# Altium schematic symbol library SparkFun-RF.SCHLIB: 105 symbols (part 1 of 2)
Pins are listed as number, name and electrical type; pins without a type are passive.

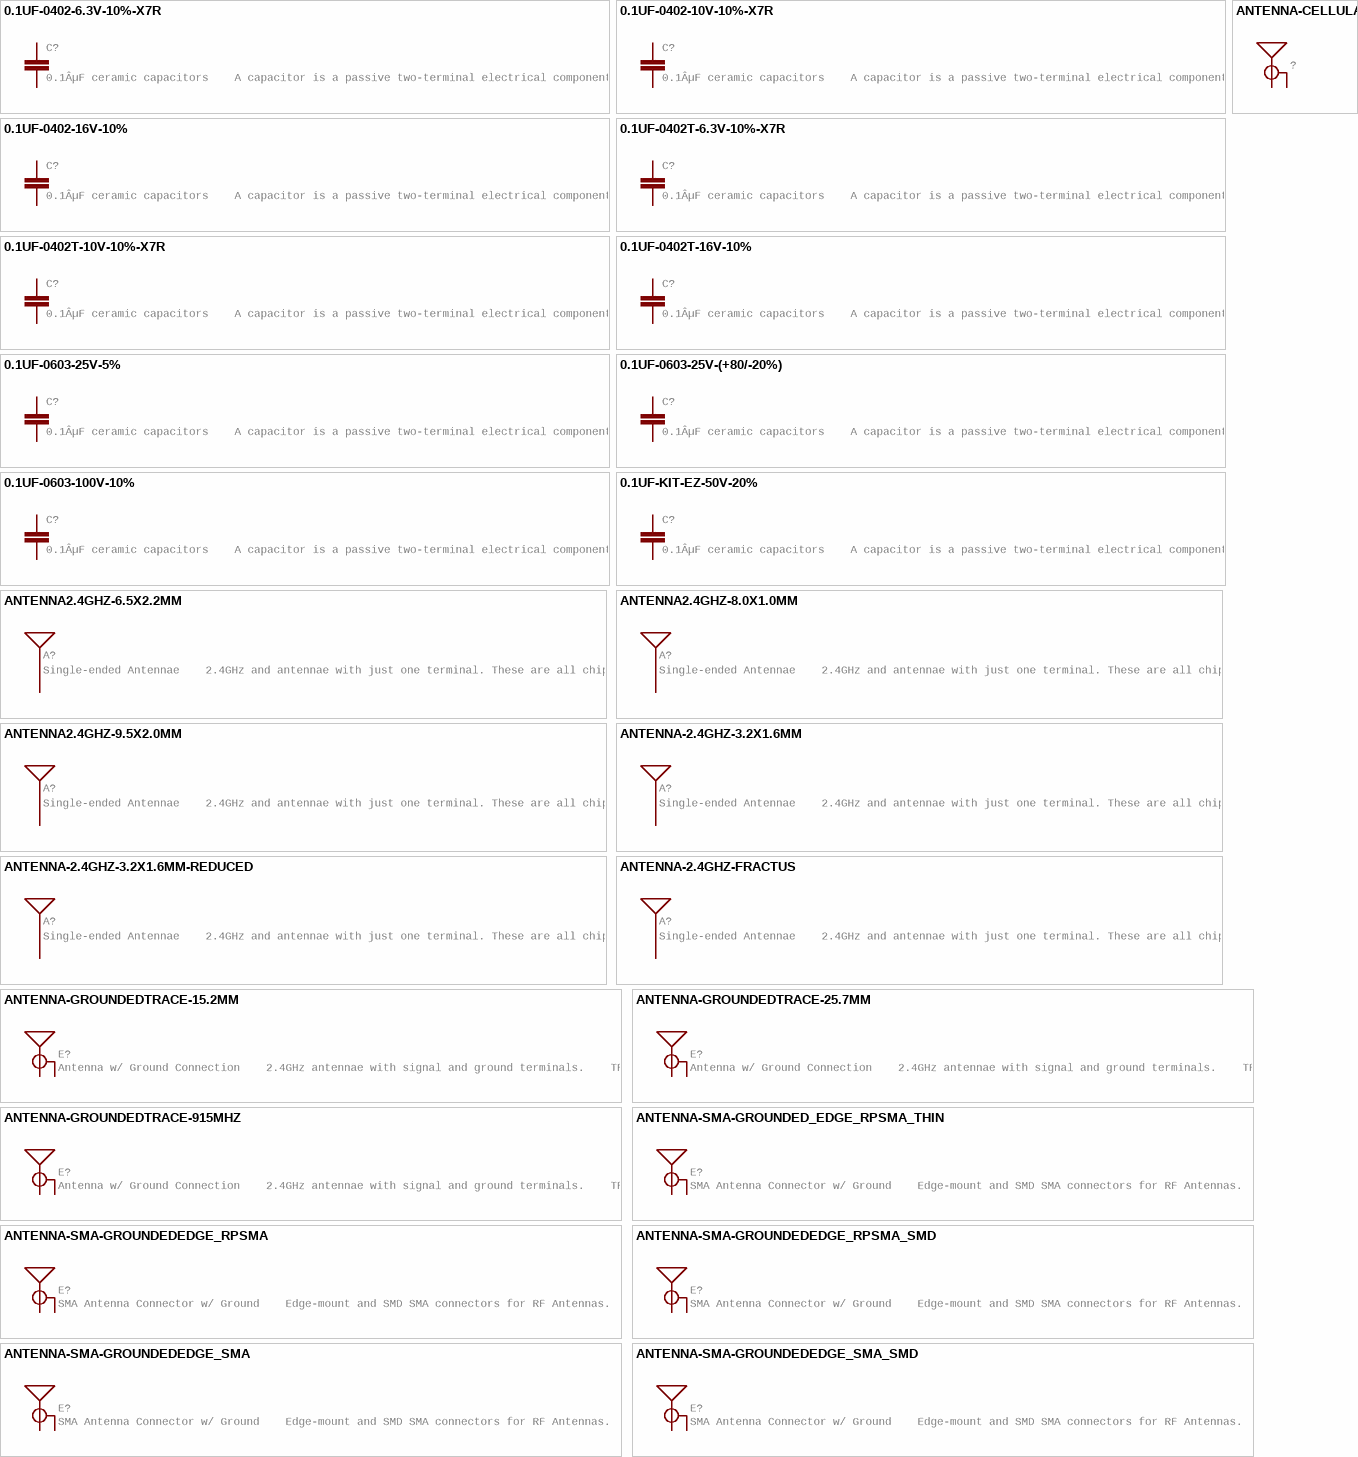
[diagram p0: symbols 0.1UF-0402-6.3V-10%-X7R to ANTENNA-SMA-GROUNDEDEDGE_SMA_SMD]

## 0.1UF-0402-6.3V-10%-X7R
designator C?, comment 0.1ÂµF ceramic capacitors    A capacitor is a passive two-terminal electrical component used to store electrical energy temporarily in an electric field.
GateName_1: G$1; SymbolName_1: CAP; DeviceName: -0402-6.3V-10%-X7R; DeviceSetName: 0.1UF; PROD_ID: CAP-14993; LibraryName: SparkFun-RF; Package: 0402
footprint 0402
pins: 1, 2

## 0.1UF-0402-10V-10%-X7R
designator C?, comment 0.1ÂµF ceramic capacitors    A capacitor is a passive two-terminal electrical component used to store electrical energy temporarily in an electric field.
GateName_1: G$1; SymbolName_1: CAP; DeviceName: -0402-10V-10%-X7R; DeviceSetName: 0.1UF; PROD_ID: CAP-15083; LibraryName: SparkFun-RF; Package: 0402
footprint 0402
pins: 1, 2

## 0.1UF-0402-16V-10%
designator C?, comment 0.1ÂµF ceramic capacitors    A capacitor is a passive two-terminal electrical component used to store electrical energy temporarily in an electric field.
GateName_1: G$1; SymbolName_1: CAP; DeviceName: -0402-16V-10%; DeviceSetName: 0.1UF; PROD_ID: CAP-12416; LibraryName: SparkFun-RF; Package: 0402
footprint 0402
pins: 1, 2

## 0.1UF-0402T-6.3V-10%-X7R
designator C?, comment 0.1ÂµF ceramic capacitors    A capacitor is a passive two-terminal electrical component used to store electrical energy temporarily in an electric field.
GateName_1: G$1; SymbolName_1: CAP; DeviceName: -0402T-6.3V-10%-X7R; DeviceSetName: 0.1UF; PROD_ID: CAP-14993; LibraryName: SparkFun-RF; Package: 0402-TIGHT
footprint 0402-TIGHT
pins: 1, 2

## 0.1UF-0402T-10V-10%-X7R
designator C?, comment 0.1ÂµF ceramic capacitors    A capacitor is a passive two-terminal electrical component used to store electrical energy temporarily in an electric field.
GateName_1: G$1; SymbolName_1: CAP; DeviceName: -0402T-10V-10%-X7R; DeviceSetName: 0.1UF; PROD_ID: CAP-15083; LibraryName: SparkFun-RF; Package: 0402-TIGHT
footprint 0402-TIGHT
pins: 1, 2

## 0.1UF-0402T-16V-10%
designator C?, comment 0.1ÂµF ceramic capacitors    A capacitor is a passive two-terminal electrical component used to store electrical energy temporarily in an electric field.
GateName_1: G$1; SymbolName_1: CAP; DeviceName: -0402T-16V-10%; DeviceSetName: 0.1UF; PROD_ID: CAP-12416; LibraryName: SparkFun-RF; Package: 0402-TIGHT
footprint 0402-TIGHT
pins: 1, 2

## 0.1UF-0603-25V-5%
designator C?, comment 0.1ÂµF ceramic capacitors    A capacitor is a passive two-terminal electrical component used to store electrical energy temporarily in an electric field.
GateName_1: G$1; SymbolName_1: CAP; DeviceName: -0603-25V-5%; DeviceSetName: 0.1UF; PROD_ID: CAP-08604; LibraryName: SparkFun-RF; Package: 0603
footprint 0603
pins: 1, 2

## 0.1UF-0603-25V-(+80/-20%)
designator C?, comment 0.1ÂµF ceramic capacitors    A capacitor is a passive two-terminal electrical component used to store electrical energy temporarily in an electric field.
GateName_1: G$1; SymbolName_1: CAP; DeviceName: -0603-25V-(+80/-20%); DeviceSetName: 0.1UF; PROD_ID: CAP-00810; LibraryName: SparkFun-RF; Package: 0603
footprint 0603
pins: 1, 2

## 0.1UF-0603-100V-10%
designator C?, comment 0.1ÂµF ceramic capacitors    A capacitor is a passive two-terminal electrical component used to store electrical energy temporarily in an electric field.
GateName_1: G$1; SymbolName_1: CAP; DeviceName: -0603-100V-10%; DeviceSetName: 0.1UF; PROD_ID: CAP-08390; LibraryName: SparkFun-RF; Package: 0603
footprint 0603
pins: 1, 2

## 0.1UF-KIT-EZ-50V-20%
designator C?, comment 0.1ÂµF ceramic capacitors    A capacitor is a passive two-terminal electrical component used to store electrical energy temporarily in an electric field.
GateName_1: G$1; SymbolName_1: CAP; DeviceName: -KIT-EZ-50V-20%; DeviceSetName: 0.1UF; PROD_ID: CAP-08370; LibraryName: SparkFun-RF; Package: CAP-PTH-SMALL-KIT
footprint CAP-PTH-SMALL-KIT
pins: 1, 2

## ANTENNA2.4GHZ-6.5X2.2MM
designator A?, comment Single-ended Antennae    2.4GHz and antennae with just one terminal. These are all chip antennae.   2.4GHz (WiFi/BT/ZigBee) Antennae ANT-2.4GHZ-6.5X2.2MM - 6.5 x 2.2 mm chip antenna. (SparkFun Product)  ANT-2.4GHZ8.0X1.0MM -  8.0 x 1.0 mm chip antenna. (Datasheet)  ANT-2.4GHZ9.5X2.0MM - 9.5 x 2.0 mm chip antenna. (SparkFun Product)
GateName_1: G$1; PROD_ID: ANT-08187; SF_ID: WRL-00144; SymbolName_1: ANTENNA; DeviceName: 2.4GHZ-6.5X2.2MM; LibraryName: SparkFun-RF; DeviceSetName: ANTENNA; Package: ANT-2.4GHZ-6.5X2.2MM
footprint ANT-2.4GHZ-6.5X2.2MM
pins: FEED SIGNAL (io)

## ANTENNA2.4GHZ-8.0X1.0MM
designator A?, comment Single-ended Antennae    2.4GHz and antennae with just one terminal. These are all chip antennae.   2.4GHz (WiFi/BT/ZigBee) Antennae ANT-2.4GHZ-6.5X2.2MM - 6.5 x 2.2 mm chip antenna. (SparkFun Product)  ANT-2.4GHZ8.0X1.0MM -  8.0 x 1.0 mm chip antenna. (Datasheet)  ANT-2.4GHZ9.5X2.0MM - 9.5 x 2.0 mm chip antenna. (SparkFun Product)
GateName_1: G$1; DeviceName: 2.4GHZ-8.0X1.0MM; PROD_ID: ANT-14377; SymbolName_1: ANTENNA; LibraryName: SparkFun-RF; DeviceSetName: ANTENNA; Package: ANT-2.4GHZ-8.0X1.0MM
footprint ANT-2.4GHZ-8.0X1.0MM
pins: FEED SIGNAL (io)

## ANTENNA2.4GHZ-9.5X2.0MM
designator A?, comment Single-ended Antennae    2.4GHz and antennae with just one terminal. These are all chip antennae.   2.4GHz (WiFi/BT/ZigBee) Antennae ANT-2.4GHZ-6.5X2.2MM - 6.5 x 2.2 mm chip antenna. (SparkFun Product)  ANT-2.4GHZ8.0X1.0MM -  8.0 x 1.0 mm chip antenna. (Datasheet)  ANT-2.4GHZ9.5X2.0MM - 9.5 x 2.0 mm chip antenna. (SparkFun Product)
GateName_1: G$1; DeviceName: 2.4GHZ-9.5X2.0MM; PROD_ID: ANT-09067; SF_ID: WRL-09025; SymbolName_1: ANTENNA; LibraryName: SparkFun-RF; DeviceSetName: ANTENNA; Package: ANT-2.4GHZ-9.5X2.0MM
footprint ANT-2.4GHZ-9.5X2.0MM
pins: FEED SIGNAL (io)

## ANTENNA-2.4GHZ-3.2X1.6MM
designator A?, comment Single-ended Antennae    2.4GHz and antennae with just one terminal. These are all chip antennae.   2.4GHz (WiFi/BT/ZigBee) Antennae ANT-2.4GHZ-6.5X2.2MM - 6.5 x 2.2 mm chip antenna. (SparkFun Product)  ANT-2.4GHZ8.0X1.0MM -  8.0 x 1.0 mm chip antenna. (Datasheet)  ANT-2.4GHZ9.5X2.0MM - 9.5 x 2.0 mm chip antenna. (SparkFun Product)
GateName_1: G$1; DeviceName: -2.4GHZ-3.2X1.6MM; PROD_ID: ANT-14235; SymbolName_1: ANTENNA; LibraryName: SparkFun-RF; DeviceSetName: ANTENNA; Package: ANT-2.4GHZ-3.2X1.6X1.2MM
footprint ANT-2.4GHZ-3.2X1.6X1.2MM
pins: FEED SIGNAL (io)

## ANTENNA-2.4GHZ-3.2X1.6MM-REDUCED
designator A?, comment Single-ended Antennae    2.4GHz and antennae with just one terminal. These are all chip antennae.   2.4GHz (WiFi/BT/ZigBee) Antennae ANT-2.4GHZ-6.5X2.2MM - 6.5 x 2.2 mm chip antenna. (SparkFun Product)  ANT-2.4GHZ8.0X1.0MM -  8.0 x 1.0 mm chip antenna. (Datasheet)  ANT-2.4GHZ9.5X2.0MM - 9.5 x 2.0 mm chip antenna. (SparkFun Product)
GateName_1: G$1; DeviceName: -2.4GHZ-3.2X1.6MM-REDUCED; PROD_ID: ANT-14235; SymbolName_1: ANTENNA; LibraryName: SparkFun-RF; DeviceSetName: ANTENNA; Package: ANT-2.4GHZ-3.2X1.6X1.2MM-REDUCED_KEEPOUT
footprint ANT-2.4GHZ-3.2X1.6X1.2MM-REDUCED_KEEPOUT
pins: FEED SIGNAL (io)

## ANTENNA-2.4GHZ-FRACTUS
designator A?, comment Single-ended Antennae    2.4GHz and antennae with just one terminal. These are all chip antennae.   2.4GHz (WiFi/BT/ZigBee) Antennae ANT-2.4GHZ-6.5X2.2MM - 6.5 x 2.2 mm chip antenna. (SparkFun Product)  ANT-2.4GHZ8.0X1.0MM -  8.0 x 1.0 mm chip antenna. (Datasheet)  ANT-2.4GHZ9.5X2.0MM - 9.5 x 2.0 mm chip antenna. (SparkFun Product)
GateName_1: G$1; DeviceName: -2.4GHZ-FRACTUS; SymbolName_1: ANTENNA; LibraryName: SparkFun-RF; DeviceSetName: ANTENNA; Package: ANT-2.4GHZ-7.0X3.0MM-FRACTUS
footprint ANT-2.4GHZ-7.0X3.0MM-FRACTUS
pins: FEED SIGNAL (io)

## ANTENNA-CELLULAR
designator ?
GateName_1: G$1; SymbolName_1: ANTENNA-GROUNDED; DeviceSetName: ANTENNA-CELLULAR; PROD_ID: ANT-14096; LibraryName: SparkFun-RF; Package: MOLEX_146200
footprint MOLEX_146200
pins: FEED SIGNAL (io), GND (io)

## ANTENNA-GROUNDEDTRACE-15.2MM
designator E?, comment Antenna w/ Ground Connection    2.4GHz antennae with signal and ground terminals.    TRACE_ANTENNA_2.4GHZ_15.2MM - Meander Trace antenna  15.2 x 5.7mm footprint  Based on layout from TI app note AN043.      TRACE_ANTENNA_2.4GHZ_25.7MM - Inverted F trace antenna  25.7 x 7.5 mm footprint.  Based on layout from TI design note DN0007.
GateName_1: G$1; SymbolName_1: ANTENNA-GROUNDED; DeviceName: TRACE-15.2MM; LibraryName: SparkFun-RF; DeviceSetName: ANTENNA-GROUNDED; Package: TRACE_ANTENNA_2.4GHZ_15.2MM
footprint TRACE_ANTENNA_2.4GHZ_15.2MM
pins: ANT SIGNAL (io), GND (io)

## ANTENNA-GROUNDEDTRACE-25.7MM
designator E?, comment Antenna w/ Ground Connection    2.4GHz antennae with signal and ground terminals.    TRACE_ANTENNA_2.4GHZ_15.2MM - Meander Trace antenna  15.2 x 5.7mm footprint  Based on layout from TI app note AN043.      TRACE_ANTENNA_2.4GHZ_25.7MM - Inverted F trace antenna  25.7 x 7.5 mm footprint.  Based on layout from TI design note DN0007.
GateName_1: G$1; SymbolName_1: ANTENNA-GROUNDED; DeviceName: TRACE-25.7MM; LibraryName: SparkFun-RF; DeviceSetName: ANTENNA-GROUNDED; Package: TRACE_ANTENNA_2.4GHZ_25.7MM
footprint TRACE_ANTENNA_2.4GHZ_25.7MM
pins: ANT SIGNAL (io), GND,GND2 GND (io)

## ANTENNA-GROUNDEDTRACE-915MHZ
designator E?, comment Antenna w/ Ground Connection    2.4GHz antennae with signal and ground terminals.    TRACE_ANTENNA_2.4GHZ_15.2MM - Meander Trace antenna  15.2 x 5.7mm footprint  Based on layout from TI app note AN043.      TRACE_ANTENNA_2.4GHZ_25.7MM - Inverted F trace antenna  25.7 x 7.5 mm footprint.  Based on layout from TI design note DN0007.
GateName_1: G$1; SymbolName_1: ANTENNA-GROUNDED; DeviceName: TRACE-915MHZ; LibraryName: SparkFun-RF; DeviceSetName: ANTENNA-GROUNDED; Package: TRACE_ANTENNA_915MHZ_THINGMAGIC
footprint TRACE_ANTENNA_915MHZ_THINGMAGIC
pins: ANT SIGNAL (io), GND@1-3 GND (io)

## ANTENNA-SMA-GROUNDED_EDGE_RPSMA_THIN
designator E?, comment SMA Antenna Connector w/ Ground    Edge-mount and SMD SMA connectors for RF Antennas.    **4-LAYER BOARD WARNING!!**    When designing a 4-layer board using any of the SMD variants, you will need to manually add a cutout polygon on any internal power layers to make sure that you don't end up with exposed copper around the edge of the routed hole for these connectors. Exposed power copper could then short to the connector body - and that would be bad.    Why hasn't anyone added the cutout polygons directly to the connector footprint? Well, your internal layers (usually 2 and 15) may be covered with GND polygons and you might well want the copper to go all the way to the edge, especially under the connector SIGNAL pin. So adding cutouts to the footprint might make matters worse, not better...
GateName_1: G$1; SymbolName_1: ANTENNA-GROUNDED; DeviceName: _EDGE_RPSMA_THIN; DeviceSetName: ANTENNA-SMA-GROUNDED; PROD_ID: CONN-16309; LibraryName: SparkFun-RF; Package: RP-SMA-EDGE
footprint RP-SMA-EDGE
pins: GND@0,GND@1,GND@2,GND@3 GND (io), SIG SIGNAL (io)

## ANTENNA-SMA-GROUNDEDEDGE_RPSMA
designator E?, comment SMA Antenna Connector w/ Ground    Edge-mount and SMD SMA connectors for RF Antennas.    **4-LAYER BOARD WARNING!!**    When designing a 4-layer board using any of the SMD variants, you will need to manually add a cutout polygon on any internal power layers to make sure that you don't end up with exposed copper around the edge of the routed hole for these connectors. Exposed power copper could then short to the connector body - and that would be bad.    Why hasn't anyone added the cutout polygons directly to the connector footprint? Well, your internal layers (usually 2 and 15) may be covered with GND polygons and you might well want the copper to go all the way to the edge, especially under the connector SIGNAL pin. So adding cutouts to the footprint might make matters worse, not better...
GateName_1: G$1; SymbolName_1: ANTENNA-GROUNDED; DeviceName: EDGE_RPSMA; DeviceSetName: ANTENNA-SMA-GROUNDED; PROD_ID: CONN-00827; LibraryName: SparkFun-RF; Package: RP-SMA-EDGE
footprint RP-SMA-EDGE
pins: GND@0,GND@1,GND@2,GND@3 GND (io), SIG SIGNAL (io)

## ANTENNA-SMA-GROUNDEDEDGE_RPSMA_SMD
designator E?, comment SMA Antenna Connector w/ Ground    Edge-mount and SMD SMA connectors for RF Antennas.    **4-LAYER BOARD WARNING!!**    When designing a 4-layer board using any of the SMD variants, you will need to manually add a cutout polygon on any internal power layers to make sure that you don't end up with exposed copper around the edge of the routed hole for these connectors. Exposed power copper could then short to the connector body - and that would be bad.    Why hasn't anyone added the cutout polygons directly to the connector footprint? Well, your internal layers (usually 2 and 15) may be covered with GND polygons and you might well want the copper to go all the way to the edge, especially under the connector SIGNAL pin. So adding cutouts to the footprint might make matters worse, not better...
GateName_1: G$1; SymbolName_1: ANTENNA-GROUNDED; DeviceName: EDGE_RPSMA_SMD; DeviceSetName: ANTENNA-SMA-GROUNDED; PROD_ID: CONN-15101; LibraryName: SparkFun-RF; Package: RP-SMA-EDGE-SMD
footprint RP-SMA-EDGE-SMD
pins: GND@0,GND@1 GND (io), SIG SIGNAL (io)

## ANTENNA-SMA-GROUNDEDEDGE_SMA
designator E?, comment SMA Antenna Connector w/ Ground    Edge-mount and SMD SMA connectors for RF Antennas.    **4-LAYER BOARD WARNING!!**    When designing a 4-layer board using any of the SMD variants, you will need to manually add a cutout polygon on any internal power layers to make sure that you don't end up with exposed copper around the edge of the routed hole for these connectors. Exposed power copper could then short to the connector body - and that would be bad.    Why hasn't anyone added the cutout polygons directly to the connector footprint? Well, your internal layers (usually 2 and 15) may be covered with GND polygons and you might well want the copper to go all the way to the edge, especially under the connector SIGNAL pin. So adding cutouts to the footprint might make matters worse, not better...
GateName_1: G$1; SymbolName_1: ANTENNA-GROUNDED; DeviceName: EDGE_SMA; DeviceSetName: ANTENNA-SMA-GROUNDED; PROD_ID: CONN-08289; LibraryName: SparkFun-RF; Package: SMA-EDGE
footprint SMA-EDGE
pins: GND@0,GND@1,GND@2,GND@3 GND (io), SIG SIGNAL (io)

## ANTENNA-SMA-GROUNDEDEDGE_SMA_SMD
designator E?, comment SMA Antenna Connector w/ Ground    Edge-mount and SMD SMA connectors for RF Antennas.    **4-LAYER BOARD WARNING!!**    When designing a 4-layer board using any of the SMD variants, you will need to manually add a cutout polygon on any internal power layers to make sure that you don't end up with exposed copper around the edge of the routed hole for these connectors. Exposed power copper could then short to the connector body - and that would be bad.    Why hasn't anyone added the cutout polygons directly to the connector footprint? Well, your internal layers (usually 2 and 15) may be covered with GND polygons and you might well want the copper to go all the way to the edge, especially under the connector SIGNAL pin. So adding cutouts to the footprint might make matters worse, not better...
GateName_1: G$1; SymbolName_1: ANTENNA-GROUNDED; DeviceName: EDGE_SMA_SMD; DeviceSetName: ANTENNA-SMA-GROUNDED; PROD_ID: CONN-15100; LibraryName: SparkFun-RF; Package: SMA-EDGE-SMD
footprint SMA-EDGE-SMD
pins: GND@0,GND@1 GND (io), SIG SIGNAL (io)

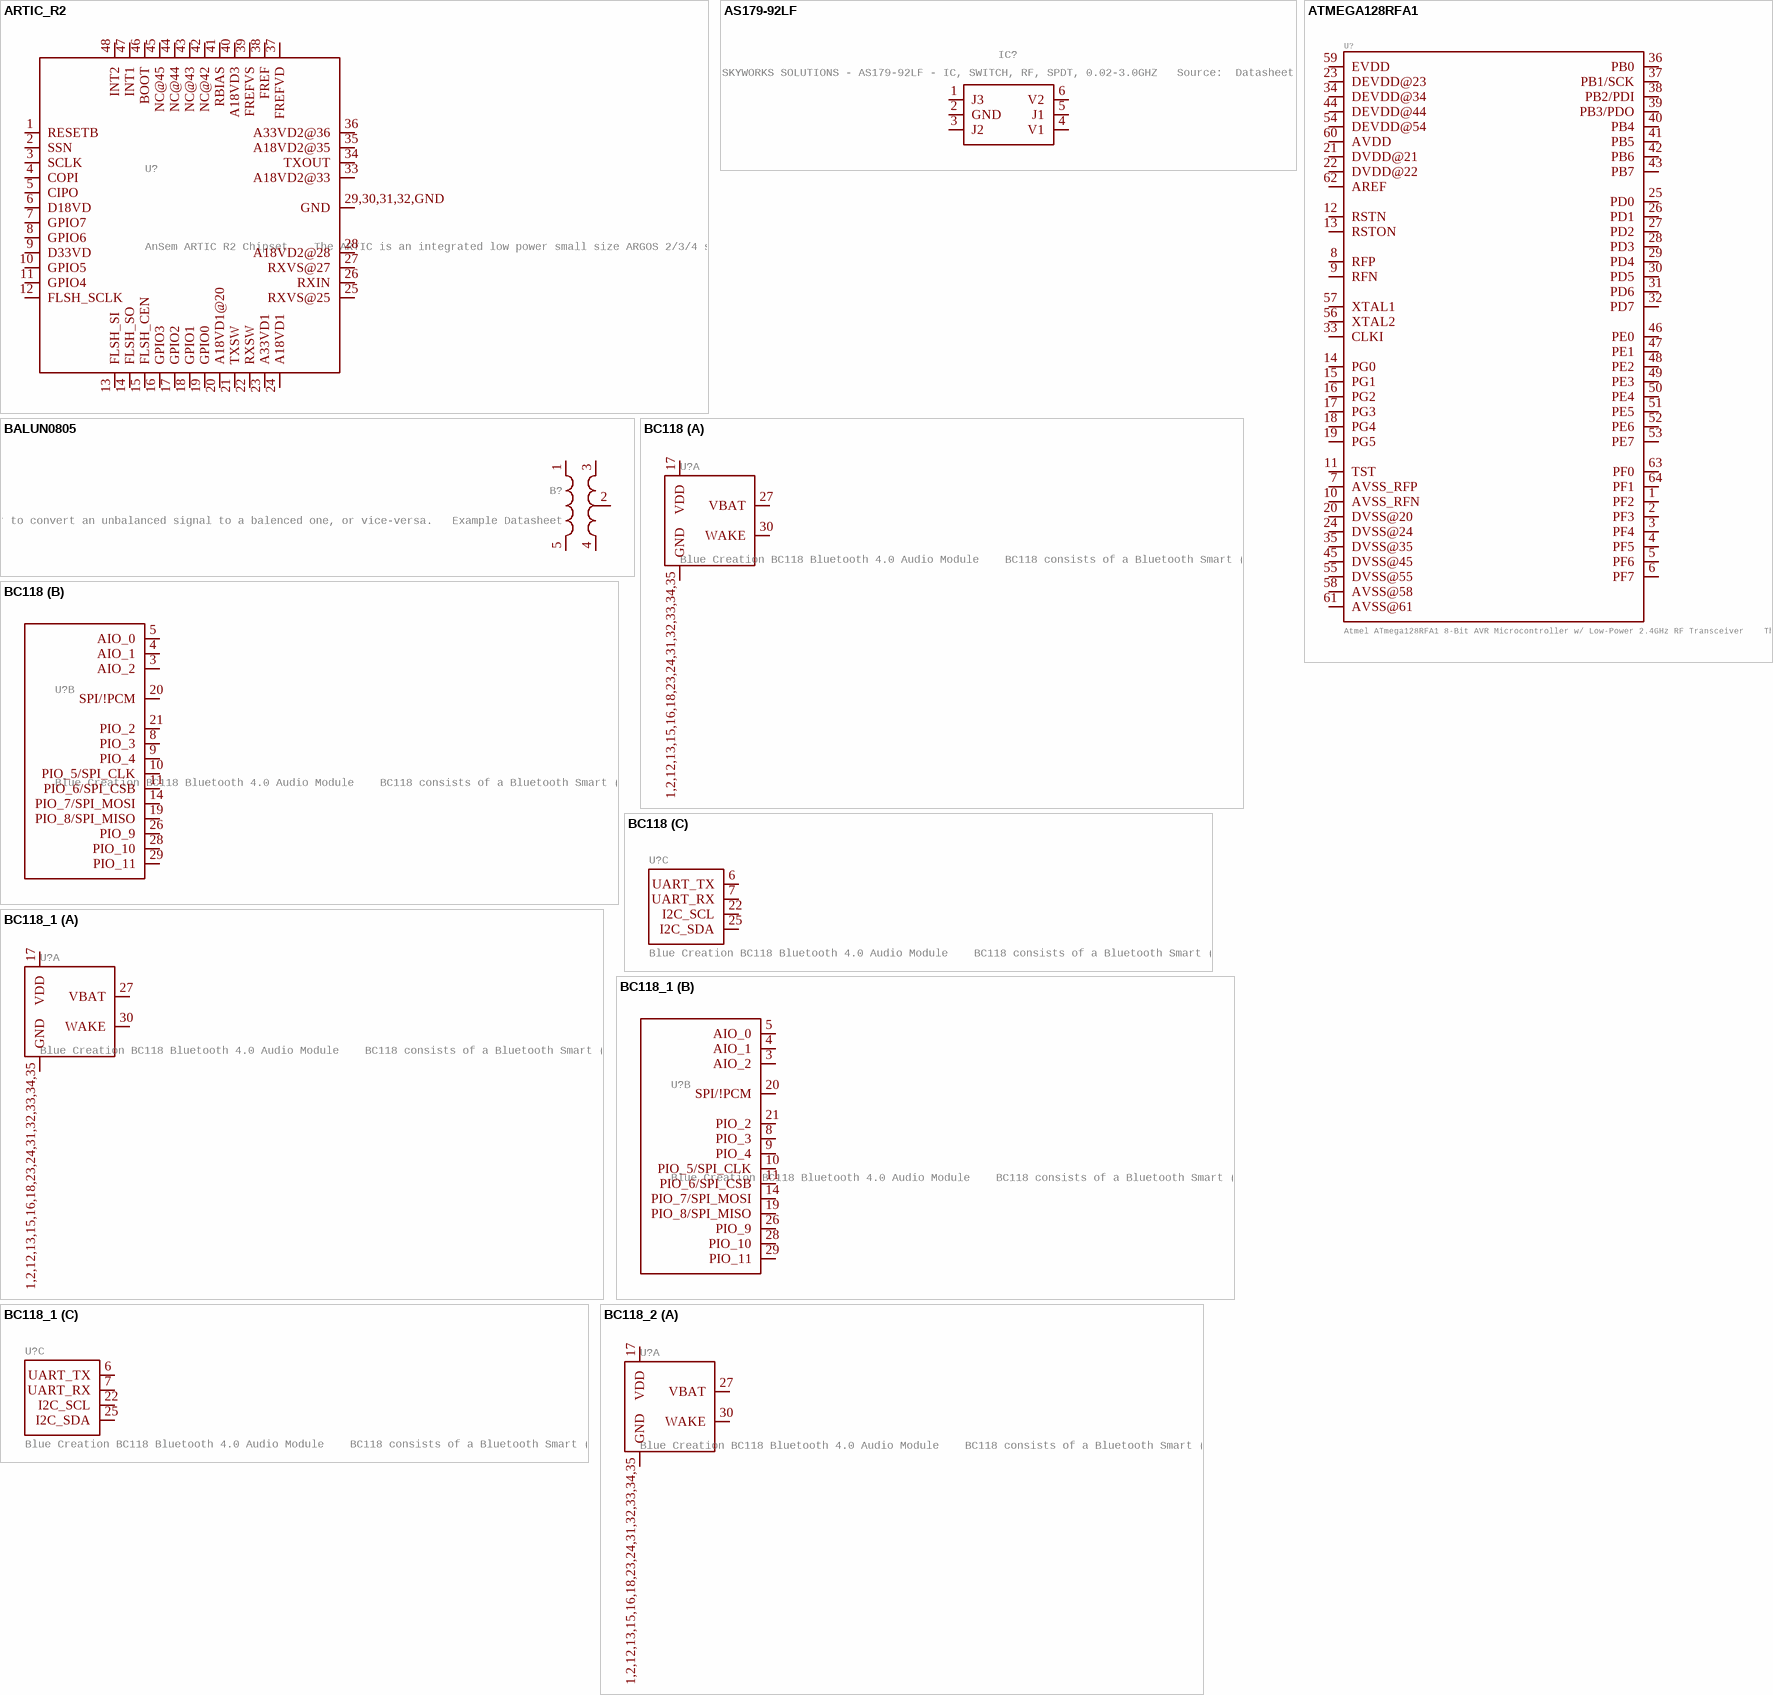
[diagram p1: symbols ARTIC_R2 to BC118_2]

## ARTIC_R2
designator U?, comment AnSem ARTIC R2 Chipset    The ARTIC is an integrated low power small size ARGOS 2/3/4 single chip radio. ARTIC implements a message based wireless interface. For satellite uplink communication, ARTIC will encode, modulate and transmit provided user messages. For downlink communication, ARTIC will lock to the downstream, demodulate and decode and extract the satellite messages.   The ARTIC can transmit signals in frequency bands around 400MHz and receive signals in the bands around 466MHz, in accordance with the ARGOS satellite system specifications.   The ARTIC is compliant and certified for all ARGOS 2 and ARGOS 3 TX standards. It contains a RF transceiver, afrequency synthesizer and a digital baseband modem. The ARTIC contains an on-chip power amplifier delivering 1mW [0dBm] output power, that serves as an output for connecting an external high efficient PA. The (de)modulation algorithms run on an on-chip DSP. This software approach allows for retargeting the ARTIC for other applications. The DSP program can be retained on an external flash or the MCU.
GateName_1: G$1; SymbolName_1: ARTIC_R2; PROD_ID: IC-15312; LibraryName: SparkFun-RF; DeviceSetName: ARTIC_R2; Package: QFN-48
footprint QFN-48
pins: 1 RESETB (io), 2 SSN (io), 3 SCLK (io), 4 COPI (io), 5 CIPO (io), 6 D18VD (power), 7 GPIO7 (io), 8 GPIO6 (io), 9 D33VD (power), 10 GPIO5 (io), 11 GPIO4 (io), 12 FLSH_SCLK (io), 13 FLSH_SI (io), 14 FLSH_SO (io), 15 FLSH_CEN (io), 16 GPIO3 (io), 17 GPIO2 (io), 18 GPIO1 (io), 19 GPIO0 (io), 20 A18VD1@20 (power), 21 TXSW (io), 22 RXSW (io), 23 A33VD1 (power), 24 A18VD1 (power), 25 RXVS@25 (io), 26 RXIN (io), 27 RXVS@27 (io), 28 A18VD2@28 (power), 29,30,31,32,GND GND (io), 33 A18VD2@33 (power), 34 TXOUT (io), 35 A18VD2@35 (power), 36 A33VD2@36 (power), 37 FREFVD (io), 38 FREF (io), 39 FREFVS (io), 40 A18VD3 (power), 41 RBIAS (io), 42 NC@42, 43 NC@43, 44 NC@44, 45 NC@45, 46 BOOT (io), 47 INT1 (io), 48 INT2 (io)

## AS179-92LF
designator IC?, comment SKYWORKS SOLUTIONS - AS179-92LF - IC, SWITCH, RF, SPDT, 0.02-3.0GHZ   Source:  Datasheet
GateName_1: G$1; PROD_ID: IC-15047; SymbolName_1: AS179-92LF; LibraryName: SparkFun-RF; DeviceSetName: AS179-92LF; Package: SOT65P220X100-6N
footprint SOT65P220X100-6N
pins: 1 J3 (io), 2 GND (power), 3 J2 (io), 4 V1 (power), 5 J1 (io), 6 V2 (power)

## ATMEGA128RFA1
designator U?, comment Atmel ATmega128RFA1 8-Bit AVR Microcontroller w/ Low-Power 2.4GHz RF Transceiver    The  ATmega128RFA1  is  a  low-power  CMOS  8-bit  microcontroller  based  on  the  AVR enhanced RISC architecture combined with a high data rate transceiver for the 2.4 GHz ISM band. By   executing   powerful   instructions   in   a   single   clock   cycle,   the   device   achieves  throughputs  approaching  1  MIPS  per  MHz  allowing  the  system  designer  to  optimize power consumption versus processing speed. The  radio  transceiver  provides  high  data  rates  from  250 kb/s  up  to  2 Mb/s,  frame handling,  outstanding receiver  sensitivity  and  high transmit  output  power  enabling  a very robust wireless communication.    Datasheet   SparkFun ATmega128RFA1 Development Board
GateName_1: G$1; PROD_ID: IC-09639; SymbolName_1: ATMEGA128RFA1; LibraryName: SparkFun-RF; DeviceSetName: ATMEGA128RFA1; Package: QFN-64-9X9MM
footprint QFN-64-9X9MM
pins: 1 PF2 (io), 2 PF3 (io), 3 PF4 (io), 4 PF5 (io), 5 PF6 (io), 6 PF7 (io), 7 AVSS_RFP (io), 8 RFP (io), 9 RFN (io), 10 AVSS_RFN (io), 11 TST (io), 12 RSTN (io), 13 RSTON (io), 14 PG0 (io), 15 PG1 (io), 16 PG2 (io), 17 PG3 (io), 18 PG4 (io), 19 PG5 (io), 20 DVSS@20 (io), 21 DVDD@21 (io), 22 DVDD@22 (io), 23 DEVDD@23 (io), 24 DVSS@24 (io), 25 PD0 (io), 26 PD1 (io), 27 PD2 (io), 28 PD3 (io), 29 PD4 (io), 30 PD5 (io), 31 PD6 (io), 32 PD7 (io), 33 CLKI (io), 34 DEVDD@34 (io), 35 DVSS@35 (io), 36 PB0 (io), 37 PB1/SCK (io), 38 PB2/PDI (io), 39 PB3/PDO (io), 40 PB4 (io), 41 PB5 (io), 42 PB6 (io), 43 PB7 (io), 44 DEVDD@44 (io), 45 DVSS@45 (io), 46 PE0 (io), 47 PE1 (io), 48 PE2 (io), 49 PE3 (io), 50 PE4 (io), 51 PE5 (io), 52 PE6 (io), 53 PE7 (io), 54 DEVDD@54 (io), 55 DVSS@55 (io), 56 XTAL2 (io), 57 XTAL1 (io), 58 AVSS@58 (io), 59 EVDD (io), 60 AVDD (io), 61 AVSS@61 (io), 62 AREF (io), 63 PF0 (io), 64 PF1 (io)

## BALUN0805
designator B?, comment Balun    Transformer to convert an unbalanced signal to a balenced one, or vice-versa.   Example Datasheet
GateName_1: G$1; DeviceName: 0805; PROD_ID: COMP-09637; SymbolName_1: BALUN; LibraryName: SparkFun-RF; DeviceSetName: BALUN; Package: BALUN-0805
footprint BALUN-0805
pins: 1 IN (io), 2 GND@2 (io), 3 OUT1 (io), 4 OUT2 (io), 5 GND@5 (io)

## BC118
designator U?, comment Blue Creation BC118 Bluetooth 4.0 Audio Module    BC118 consists of a Bluetooth Smart (Bluetooth 4.0) radio, a microprocessor running an embedded protocol stack. The module is controlled by high level UART instructions or GPIOs. B118 supports UART and I2C Transparent mode for cable replacement, standard/custom profiles, central and peripheral modes. It can connect to any Android, iOS or Windows Mobile Smartphone that is Bluetooth smart capable. The firmware can be upgraded using an App provided by BlueCreation. BC118 can run standalone, with a host processor or controlled by an App.   Datasheet   SparkFun Products:  BLE Mate 2 (WRL-13019)
GateName_1: G1; SymbolName_1: BC118_POWER; GateName_2: G2; SymbolName_2: BC118_PIO; GateName_3: G3; SymbolName_3: BC118_COMMS; PROD_ID: WRL-12203; LibraryName: SparkFun-RF; DeviceSetName: BC118; Package: BC118
footprint BC118
part A pins: 1,2,12,13,15,16,18,23,24,31,32,33,34,35 GND (io), 17 VDD (io), 27 VBAT (io), 30 WAKE (io)
part B pins: 3 AIO_2 (io), 4 AIO_1 (io), 5 AIO_0 (io), 8 PIO_3 (io), 9 PIO_4 (io), 10 PIO_5/SPI_CLK (io), 11 PIO_6/SPI_CSB (io), 14 PIO_7/SPI_MOSI (io), 19 PIO_8/SPI_MISO (io), 20 SPI/!PCM (io), 21 PIO_2 (io), 26 PIO_9 (io), 28 PIO_10 (io), 29 PIO_11 (io)
part C pins: 6 UART_TX (io), 7 UART_RX (io), 22 I2C_SCL (io), 25 I2C_SDA (io)

## BC118_1
designator U?, comment Blue Creation BC118 Bluetooth 4.0 Audio Module    BC118 consists of a Bluetooth Smart (Bluetooth 4.0) radio, a microprocessor running an embedded protocol stack. The module is controlled by high level UART instructions or GPIOs. B118 supports UART and I2C Transparent mode for cable replacement, standard/custom profiles, central and peripheral modes. It can connect to any Android, iOS or Windows Mobile Smartphone that is Bluetooth smart capable. The firmware can be upgraded using an App provided by BlueCreation. BC118 can run standalone, with a host processor or controlled by an App.   Datasheet   SparkFun Products:  BLE Mate 2 (WRL-13019)
GateName_1: G1; SymbolName_1: BC118_POWER; GateName_2: G2; SymbolName_2: BC118_PIO; GateName_3: G3; SymbolName_3: BC118_COMMS; PROD_ID: WRL-12203; LibraryName: SparkFun-RF; DeviceSetName: BC118; Package: BC118
footprint BC118
part A pins: 1,2,12,13,15,16,18,23,24,31,32,33,34,35 GND (io), 17 VDD (io), 27 VBAT (io), 30 WAKE (io)
part B pins: 3 AIO_2 (io), 4 AIO_1 (io), 5 AIO_0 (io), 8 PIO_3 (io), 9 PIO_4 (io), 10 PIO_5/SPI_CLK (io), 11 PIO_6/SPI_CSB (io), 14 PIO_7/SPI_MOSI (io), 19 PIO_8/SPI_MISO (io), 20 SPI/!PCM (io), 21 PIO_2 (io), 26 PIO_9 (io), 28 PIO_10 (io), 29 PIO_11 (io)
part C pins: 6 UART_TX (io), 7 UART_RX (io), 22 I2C_SCL (io), 25 I2C_SDA (io)

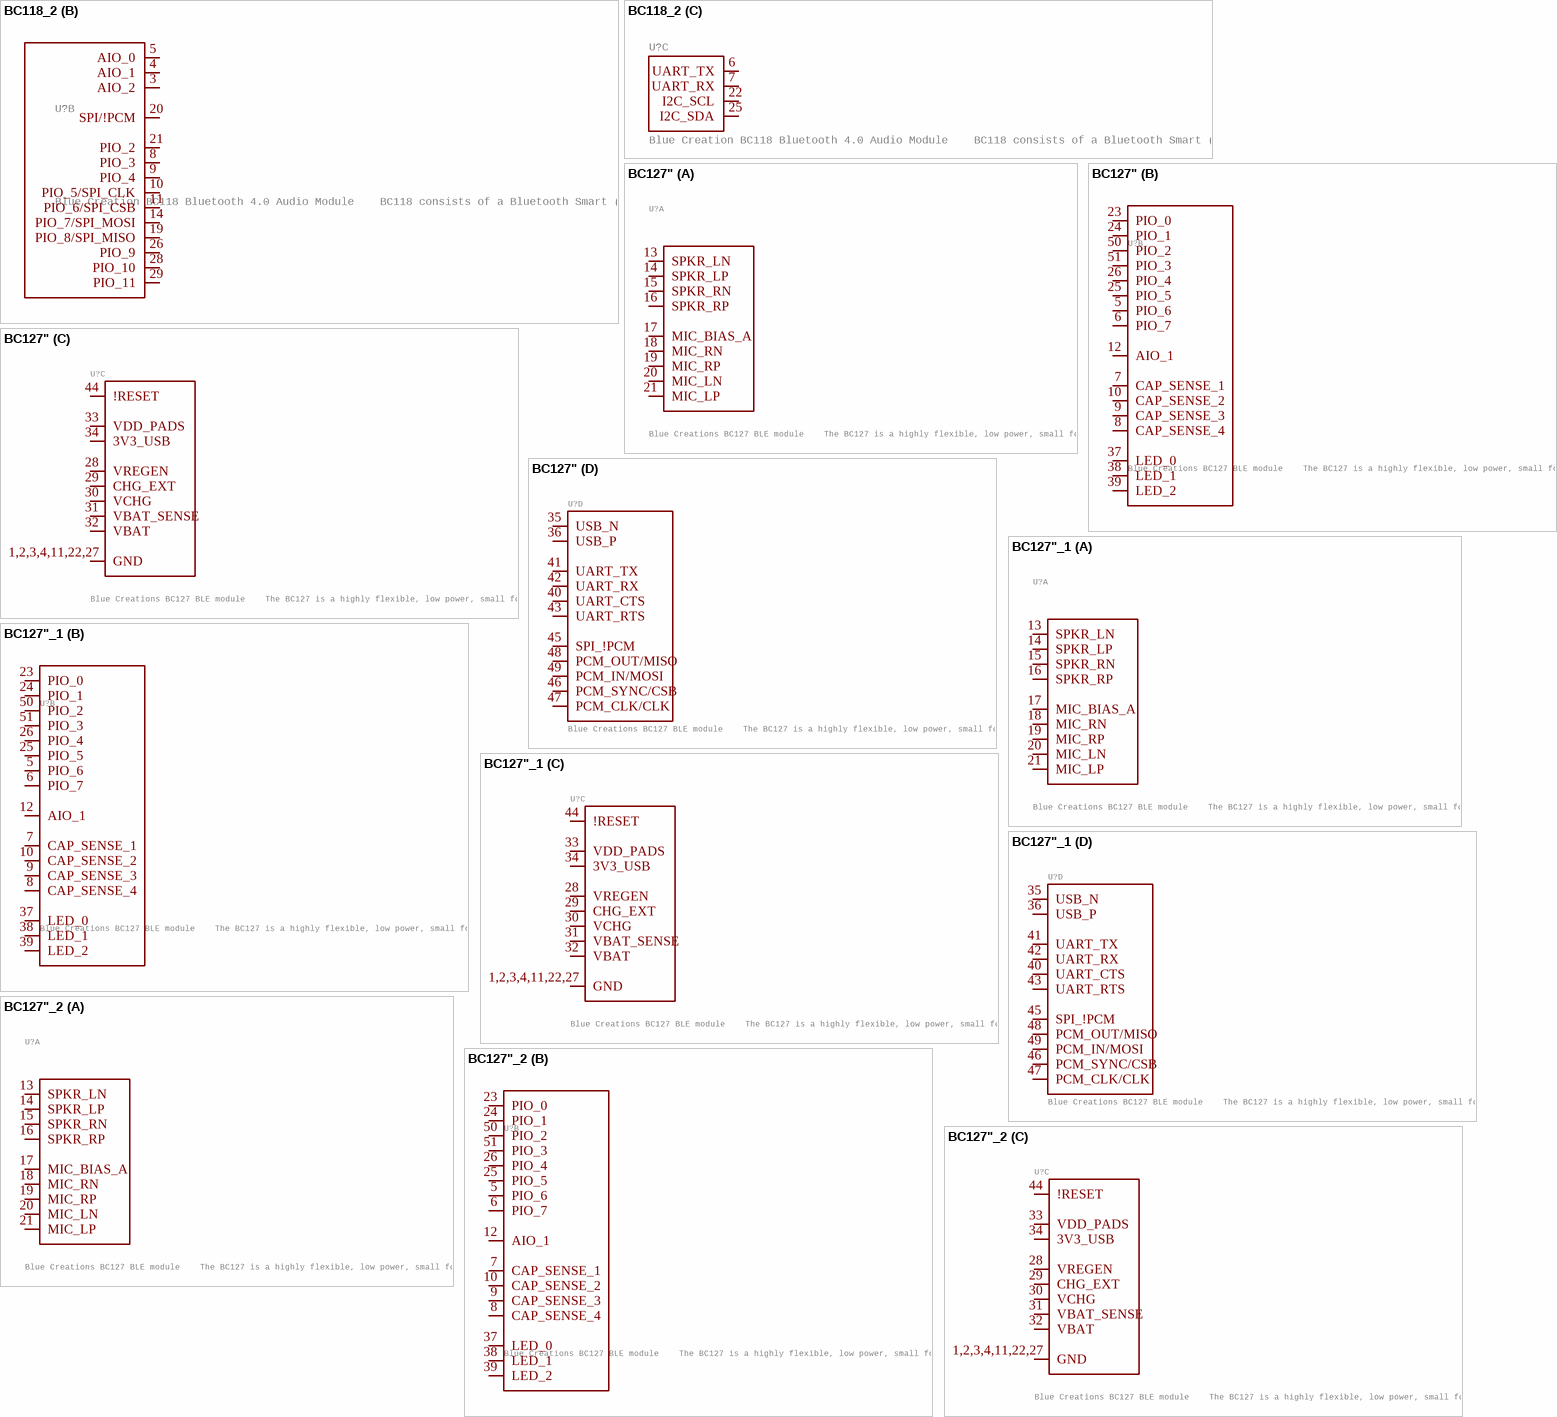
[diagram p2: symbols BC118_2 to BC127"_2]

## BC118_2
designator U?, comment Blue Creation BC118 Bluetooth 4.0 Audio Module    BC118 consists of a Bluetooth Smart (Bluetooth 4.0) radio, a microprocessor running an embedded protocol stack. The module is controlled by high level UART instructions or GPIOs. B118 supports UART and I2C Transparent mode for cable replacement, standard/custom profiles, central and peripheral modes. It can connect to any Android, iOS or Windows Mobile Smartphone that is Bluetooth smart capable. The firmware can be upgraded using an App provided by BlueCreation. BC118 can run standalone, with a host processor or controlled by an App.   Datasheet   SparkFun Products:  BLE Mate 2 (WRL-13019)
GateName_1: G1; SymbolName_1: BC118_POWER; GateName_2: G2; SymbolName_2: BC118_PIO; GateName_3: G3; SymbolName_3: BC118_COMMS; PROD_ID: WRL-12203; LibraryName: SparkFun-RF; DeviceSetName: BC118; Package: BC118
footprint BC118
part A pins: 1,2,12,13,15,16,18,23,24,31,32,33,34,35 GND (io), 17 VDD (io), 27 VBAT (io), 30 WAKE (io)
part B pins: 3 AIO_2 (io), 4 AIO_1 (io), 5 AIO_0 (io), 8 PIO_3 (io), 9 PIO_4 (io), 10 PIO_5/SPI_CLK (io), 11 PIO_6/SPI_CSB (io), 14 PIO_7/SPI_MOSI (io), 19 PIO_8/SPI_MISO (io), 20 SPI/!PCM (io), 21 PIO_2 (io), 26 PIO_9 (io), 28 PIO_10 (io), 29 PIO_11 (io)
part C pins: 6 UART_TX (io), 7 UART_RX (io), 22 I2C_SCL (io), 25 I2C_SDA (io)

## BC127"
designator U?, comment Blue Creations BC127 BLE module    The BC127 is a highly flexible, low power, small form factor Bluetooth Version 4.0 Certified Audio module. It comes preloaded with BlueCreation Melody software, and is ideal for developers who want to quickly and cost effectively integrate Bluetooth functionality into their products.   SparkFun Products:  Bluetooth SMD Module - BC127 (WRL-12819)  Bluetooth Audio Breakout - BC127 (WRL-11927)  Purpletooth Jamboree - BC127 Development Board (WRL-11924)
GateName_1: .ANALOG_AUDIO; SymbolName_1: BC127_ANALOG_AUDIO; GateName_2: .GPIO; SymbolName_2: BC127_GPIO; GateName_3: .POWER; SymbolName_3: BC127_POWER; GateName_4: .DATA_PORTS; SymbolName_4: BC127_DATA_PORTS; DeviceName: "; PROD_ID: IC-11659; LibraryName: SparkFun-RF; DeviceSetName: BC127; Package: BC127
footprint BC127
part A pins: 13 SPKR_LN (io), 14 SPKR_LP (io), 15 SPKR_RN (io), 16 SPKR_RP (io), 17 MIC_BIAS_A (io), 18 MIC_RN (io), 19 MIC_RP (io), 20 MIC_LN (io), 21 MIC_LP (io)
part B pins: 5 PIO_6 (io), 6 PIO_7 (io), 7 CAP_SENSE_1 (io), 8 CAP_SENSE_4 (io), 9 CAP_SENSE_3 (io), 10 CAP_SENSE_2 (io), 12 AIO_1 (io), 23 PIO_0 (io), 24 PIO_1 (io), 25 PIO_5 (io), 26 PIO_4 (io), 37 LED_0 (io), 38 LED_1 (io), 39 LED_2 (io), 50 PIO_2 (io), 51 PIO_3 (io)
part C pins: 1,2,3,4,11,22,27 GND (io), 28 VREGEN (io), 29 CHG_EXT (io), 30 VCHG (io), 31 VBAT_SENSE (io), 32 VBAT (io), 33 VDD_PADS (io), 34 3V3_USB (io), 44 !RESET (io)
part D pins: 35 USB_N (io), 36 USB_P (io), 40 UART_CTS (io), 41 UART_TX (io), 42 UART_RX (io), 43 UART_RTS (io), 45 SPI_!PCM (io), 46 PCM_SYNC/CSB (io), 47 PCM_CLK/CLK (io), 48 PCM_OUT/MISO (io), 49 PCM_IN/MOSI (io)

## BC127"_1
designator U?, comment Blue Creations BC127 BLE module    The BC127 is a highly flexible, low power, small form factor Bluetooth Version 4.0 Certified Audio module. It comes preloaded with BlueCreation Melody software, and is ideal for developers who want to quickly and cost effectively integrate Bluetooth functionality into their products.   SparkFun Products:  Bluetooth SMD Module - BC127 (WRL-12819)  Bluetooth Audio Breakout - BC127 (WRL-11927)  Purpletooth Jamboree - BC127 Development Board (WRL-11924)
GateName_1: .ANALOG_AUDIO; SymbolName_1: BC127_ANALOG_AUDIO; GateName_2: .GPIO; SymbolName_2: BC127_GPIO; GateName_3: .POWER; SymbolName_3: BC127_POWER; GateName_4: .DATA_PORTS; SymbolName_4: BC127_DATA_PORTS; DeviceName: "; PROD_ID: IC-11659; LibraryName: SparkFun-RF; DeviceSetName: BC127; Package: BC127
footprint BC127
part A pins: 13 SPKR_LN (io), 14 SPKR_LP (io), 15 SPKR_RN (io), 16 SPKR_RP (io), 17 MIC_BIAS_A (io), 18 MIC_RN (io), 19 MIC_RP (io), 20 MIC_LN (io), 21 MIC_LP (io)
part B pins: 5 PIO_6 (io), 6 PIO_7 (io), 7 CAP_SENSE_1 (io), 8 CAP_SENSE_4 (io), 9 CAP_SENSE_3 (io), 10 CAP_SENSE_2 (io), 12 AIO_1 (io), 23 PIO_0 (io), 24 PIO_1 (io), 25 PIO_5 (io), 26 PIO_4 (io), 37 LED_0 (io), 38 LED_1 (io), 39 LED_2 (io), 50 PIO_2 (io), 51 PIO_3 (io)
part C pins: 1,2,3,4,11,22,27 GND (io), 28 VREGEN (io), 29 CHG_EXT (io), 30 VCHG (io), 31 VBAT_SENSE (io), 32 VBAT (io), 33 VDD_PADS (io), 34 3V3_USB (io), 44 !RESET (io)
part D pins: 35 USB_N (io), 36 USB_P (io), 40 UART_CTS (io), 41 UART_TX (io), 42 UART_RX (io), 43 UART_RTS (io), 45 SPI_!PCM (io), 46 PCM_SYNC/CSB (io), 47 PCM_CLK/CLK (io), 48 PCM_OUT/MISO (io), 49 PCM_IN/MOSI (io)

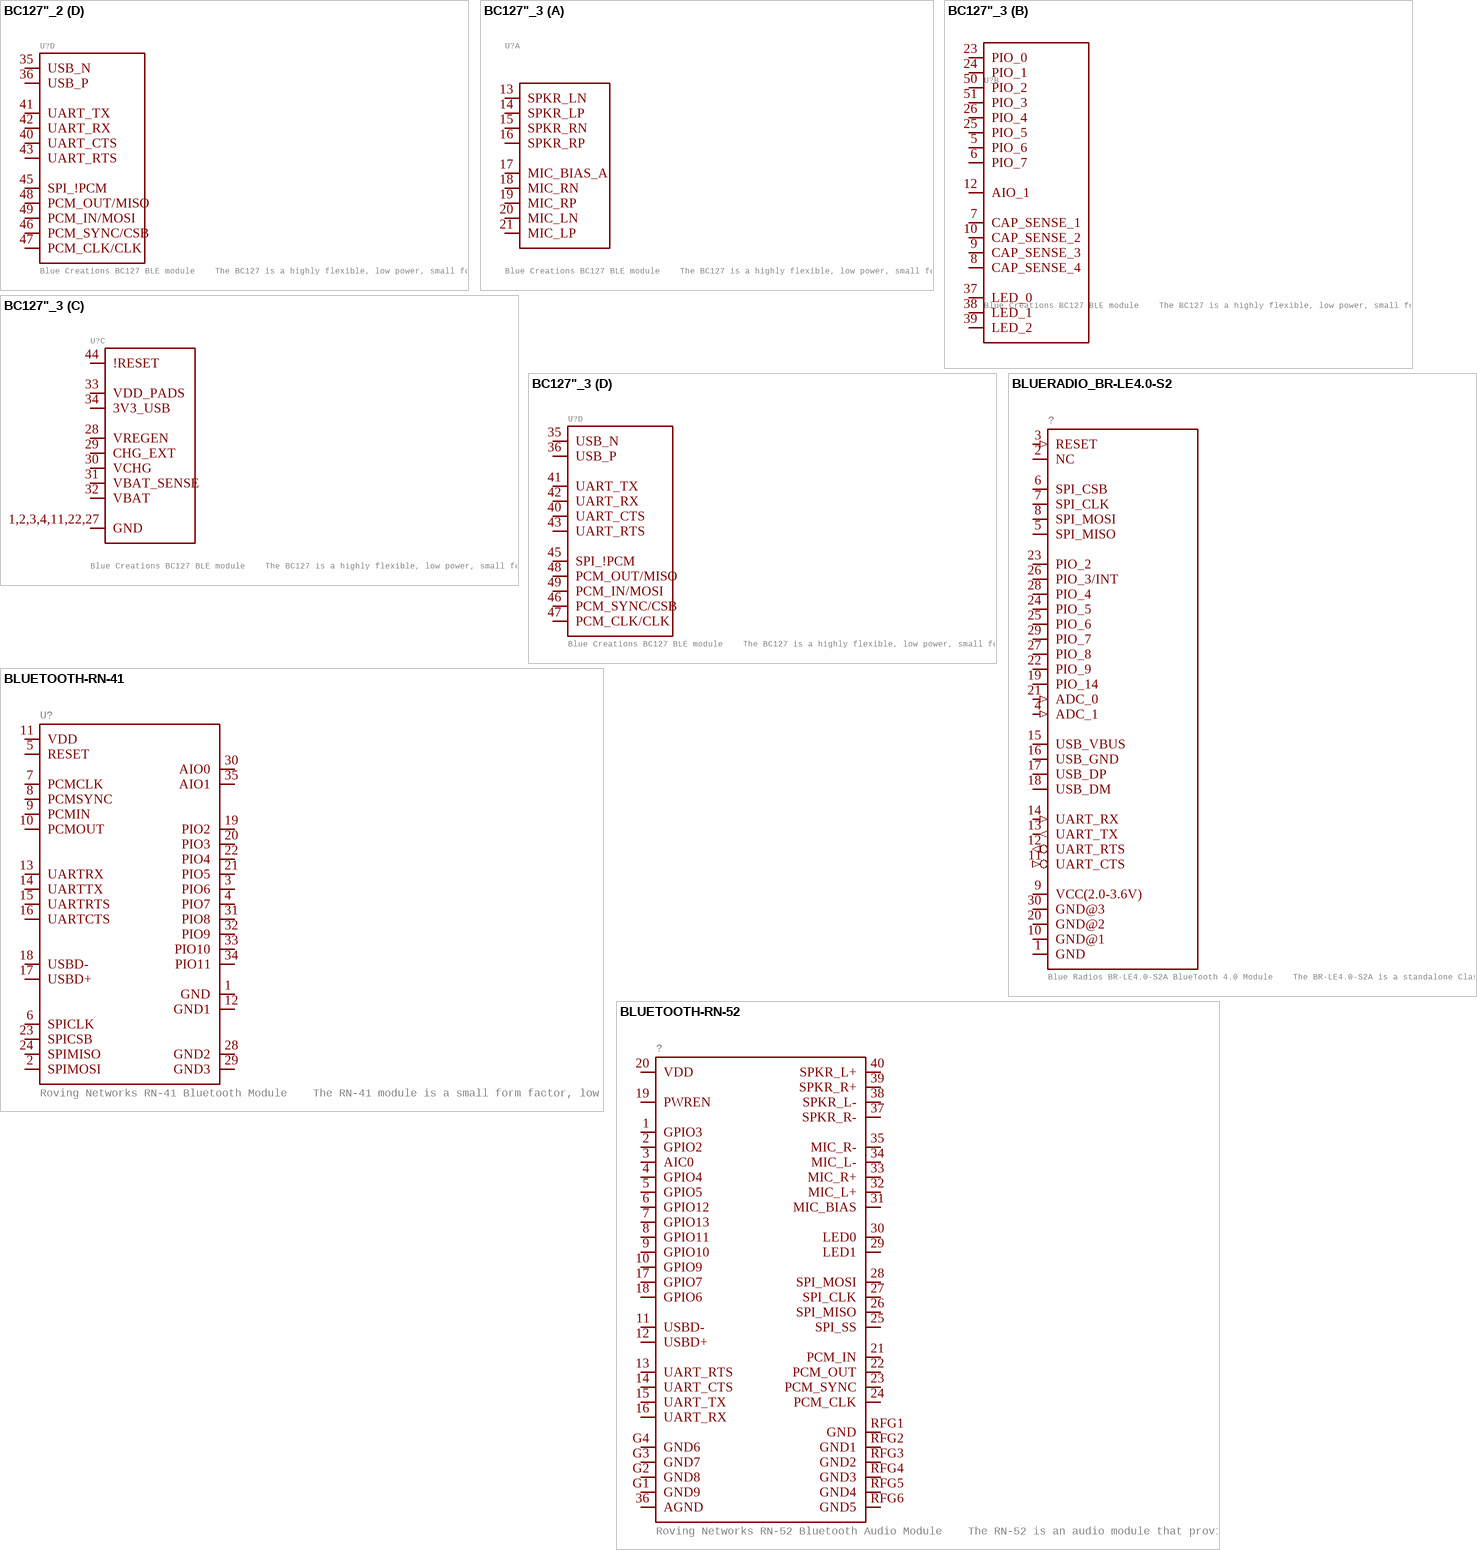
[diagram p3: symbols BC127"_2 to BLUETOOTH-RN-52]

## BC127"_2
designator U?, comment Blue Creations BC127 BLE module    The BC127 is a highly flexible, low power, small form factor Bluetooth Version 4.0 Certified Audio module. It comes preloaded with BlueCreation Melody software, and is ideal for developers who want to quickly and cost effectively integrate Bluetooth functionality into their products.   SparkFun Products:  Bluetooth SMD Module - BC127 (WRL-12819)  Bluetooth Audio Breakout - BC127 (WRL-11927)  Purpletooth Jamboree - BC127 Development Board (WRL-11924)
GateName_1: .ANALOG_AUDIO; SymbolName_1: BC127_ANALOG_AUDIO; GateName_2: .GPIO; SymbolName_2: BC127_GPIO; GateName_3: .POWER; SymbolName_3: BC127_POWER; GateName_4: .DATA_PORTS; SymbolName_4: BC127_DATA_PORTS; DeviceName: "; PROD_ID: IC-11659; LibraryName: SparkFun-RF; DeviceSetName: BC127; Package: BC127
footprint BC127
part A pins: 13 SPKR_LN (io), 14 SPKR_LP (io), 15 SPKR_RN (io), 16 SPKR_RP (io), 17 MIC_BIAS_A (io), 18 MIC_RN (io), 19 MIC_RP (io), 20 MIC_LN (io), 21 MIC_LP (io)
part B pins: 5 PIO_6 (io), 6 PIO_7 (io), 7 CAP_SENSE_1 (io), 8 CAP_SENSE_4 (io), 9 CAP_SENSE_3 (io), 10 CAP_SENSE_2 (io), 12 AIO_1 (io), 23 PIO_0 (io), 24 PIO_1 (io), 25 PIO_5 (io), 26 PIO_4 (io), 37 LED_0 (io), 38 LED_1 (io), 39 LED_2 (io), 50 PIO_2 (io), 51 PIO_3 (io)
part C pins: 1,2,3,4,11,22,27 GND (io), 28 VREGEN (io), 29 CHG_EXT (io), 30 VCHG (io), 31 VBAT_SENSE (io), 32 VBAT (io), 33 VDD_PADS (io), 34 3V3_USB (io), 44 !RESET (io)
part D pins: 35 USB_N (io), 36 USB_P (io), 40 UART_CTS (io), 41 UART_TX (io), 42 UART_RX (io), 43 UART_RTS (io), 45 SPI_!PCM (io), 46 PCM_SYNC/CSB (io), 47 PCM_CLK/CLK (io), 48 PCM_OUT/MISO (io), 49 PCM_IN/MOSI (io)

## BC127"_3
designator U?, comment Blue Creations BC127 BLE module    The BC127 is a highly flexible, low power, small form factor Bluetooth Version 4.0 Certified Audio module. It comes preloaded with BlueCreation Melody software, and is ideal for developers who want to quickly and cost effectively integrate Bluetooth functionality into their products.   SparkFun Products:  Bluetooth SMD Module - BC127 (WRL-12819)  Bluetooth Audio Breakout - BC127 (WRL-11927)  Purpletooth Jamboree - BC127 Development Board (WRL-11924)
GateName_1: .ANALOG_AUDIO; SymbolName_1: BC127_ANALOG_AUDIO; GateName_2: .GPIO; SymbolName_2: BC127_GPIO; GateName_3: .POWER; SymbolName_3: BC127_POWER; GateName_4: .DATA_PORTS; SymbolName_4: BC127_DATA_PORTS; DeviceName: "; PROD_ID: IC-11659; LibraryName: SparkFun-RF; DeviceSetName: BC127; Package: BC127
footprint BC127
part A pins: 13 SPKR_LN (io), 14 SPKR_LP (io), 15 SPKR_RN (io), 16 SPKR_RP (io), 17 MIC_BIAS_A (io), 18 MIC_RN (io), 19 MIC_RP (io), 20 MIC_LN (io), 21 MIC_LP (io)
part B pins: 5 PIO_6 (io), 6 PIO_7 (io), 7 CAP_SENSE_1 (io), 8 CAP_SENSE_4 (io), 9 CAP_SENSE_3 (io), 10 CAP_SENSE_2 (io), 12 AIO_1 (io), 23 PIO_0 (io), 24 PIO_1 (io), 25 PIO_5 (io), 26 PIO_4 (io), 37 LED_0 (io), 38 LED_1 (io), 39 LED_2 (io), 50 PIO_2 (io), 51 PIO_3 (io)
part C pins: 1,2,3,4,11,22,27 GND (io), 28 VREGEN (io), 29 CHG_EXT (io), 30 VCHG (io), 31 VBAT_SENSE (io), 32 VBAT (io), 33 VDD_PADS (io), 34 3V3_USB (io), 44 !RESET (io)
part D pins: 35 USB_N (io), 36 USB_P (io), 40 UART_CTS (io), 41 UART_TX (io), 42 UART_RX (io), 43 UART_RTS (io), 45 SPI_!PCM (io), 46 PCM_SYNC/CSB (io), 47 PCM_CLK/CLK (io), 48 PCM_OUT/MISO (io), 49 PCM_IN/MOSI (io)

## BLUERADIO_BR-LE4.0-S2
designator ?, comment Blue Radios BR-LE4.0-S2A BlueTooth 4.0 Module    The BR-LE4.0-S2A is a standalone Class 1 Bluetooth 4.0 module that requires no firmware or external components. Custom client applications can be written directly onto the module, which supports both analog and digital peripherals, eliminating the need for a second microprocessor. Alternately, the BR-LE4.0-S2A can be integrated into an existing design as a HCI network processor device, with a host processor running the core application and the BR-LE4.0-S2A providing Bluetooth low energy communications.   SparkFun Products:  Bluetooth 4.0 Module - BR-LE 4.0-S2A (WRL-12991)
GateName_1: G$1; SymbolName_1: BLUERADIO_BR-LE4.0-S2; PROD_ID: IC-11328; LibraryName: SparkFun-RF; DeviceSetName: BLUERADIO_BR-LE4.0-S2; Package: BLUERADIO_BR-LE4.0-S2
footprint BLUERADIO_BR-LE4.0-S2
pins: 1 GND (power), 2 NC, 3 RESET (in), 4 ADC_1 (in), 5 SPI_MISO (io), 6 SPI_CSB (io), 7 SPI_CLK (io), 8 SPI_MOSI (io), 9 VCC(2.0-3.6V) (power), 10 GND@1 (power), 11 UART_CTS (in), 12 UART_RTS (out), 13 UART_TX (out), 14 UART_RX (in), 15 USB_VBUS (io), 16 USB_GND (io), 17 USB_DP (io), 18 USB_DM (io), 19 PIO_14 (io), 20 GND@2 (power), 21 ADC_0 (in), 22 PIO_9 (io), 23 PIO_2 (io), 24 PIO_5 (io), 25 PIO_6 (io), 26 PIO_3/INT (io), 27 PIO_8 (io), 28 PIO_4 (io), 29 PIO_7 (io), 30 GND@3 (power)

## BLUETOOTH-RN-41
designator U?, comment Roving Networks RN-41 Bluetooth Module    The RN-41 module is a small form factor, low power, class 1 Bluetooth radio that is ideal for designers who want to add wireless capability to their products without spending significant time and money developing Bluetooth-specific hardware and software. The RN-41 supports multiple interface protocols, is simple to design in, and is fully certified, making it a complete embedded Bluetooth solution.   SparkFun Products:  Bluetooth SMD Module - RN-41 (WRL-12575)  Bluetooth Module Breakout - Roving Networks (RN-41 v6.15) (WRL-12579)
GateName_1: G$1; SymbolName_1: RN41; DeviceSetName: BLUETOOTH-RN-41; PROD_ID: IC-11844; LibraryName: SparkFun-RF; Package: RN41; SF_ID: WRL-12575
footprint RN41
pins: 1 GND (io), 2 SPIMOSI (io), 3 PIO6 (io), 4 PIO7 (io), 5 RESET (io), 6 SPICLK (io), 7 PCMCLK (io), 8 PCMSYNC (io), 9 PCMIN (io), 10 PCMOUT (io), 11 VDD (io), 12 GND1 (io), 13 UARTRX (io), 14 UARTTX (io), 15 UARTRTS (io), 16 UARTCTS (io), 17 USBD+ (io), 18 USBD- (io), 19 PIO2 (io), 20 PIO3 (io), 21 PIO5 (io), 22 PIO4 (io), 23 SPICSB (io), 24 SPIMISO (io), 28 GND2 (io), 29 GND3 (io), 30 AIO0 (io), 31 PIO8 (io), 32 PIO9 (io), 33 PIO10 (io), 34 PIO11 (io), 35 AIO1 (io)

## BLUETOOTH-RN-52
designator ?, comment Roving Networks RN-52 Bluetooth Audio Module    The RN-52 is an audio module that provides a highly integrated solution for delivering high quality stereo audio in a small form factor with little difficulty. This module is perfect for a project involving hands free audio for your car, remote controlling your media center, or streaming 2-channel audio.   SparkFun Products:  RN-52 - Bluetooth Audio Module (WRL-11678)  Audio Bluetooth Breakout - RN-52 (WRL-12849)
GateName_1: G$1; DeviceSetName: BLUETOOTH-RN-52; PROD_ID: IC-11569; SymbolName_1: RN-52; LibraryName: SparkFun-RF; Package: RN-52; SF_ID: WRL-11678
footprint RN-52
pins: 1 GPIO3 (io), 2 GPIO2 (io), 3 AIC0 (io), 4 GPIO4 (io), 5 GPIO5 (io), 6 GPIO12 (io), 7 GPIO13 (io), 8 GPIO11 (io), 9 GPIO10 (io), 10 GPIO9 (io), 11 USBD- (io), 12 USBD+ (io), 13 UART_RTS (io), 14 UART_CTS (io), 15 UART_TX (io), 16 UART_RX (io), 17 GPIO7 (io), 18 GPIO6 (io), 19 PWREN (io), 20 VDD (io), 21 PCM_IN (io), 22 PCM_OUT (io), 23 PCM_SYNC (io), 24 PCM_CLK (io), 25 SPI_SS (io), 26 SPI_MISO (io), 27 SPI_CLK (io), 28 SPI_MOSI (io), 29 LED1 (io), 30 LED0 (io), 31 MIC_BIAS (io), 32 MIC_L+ (io), 33 MIC_R+ (io), 34 MIC_L- (io), 35 MIC_R- (io), 36 AGND (io), 37 SPKR_R- (io), 38 SPKR_L- (io), 39 SPKR_R+ (io), 40 SPKR_L+ (io), G1 GND9 (io), G2 GND8 (io), G3 GND7 (io), G4 GND6 (io), RFG1 GND (io), RFG2 GND1 (io), RFG3 GND2 (io), RFG4 GND3 (io), RFG5 GND4 (io), RFG6 GND5 (io)

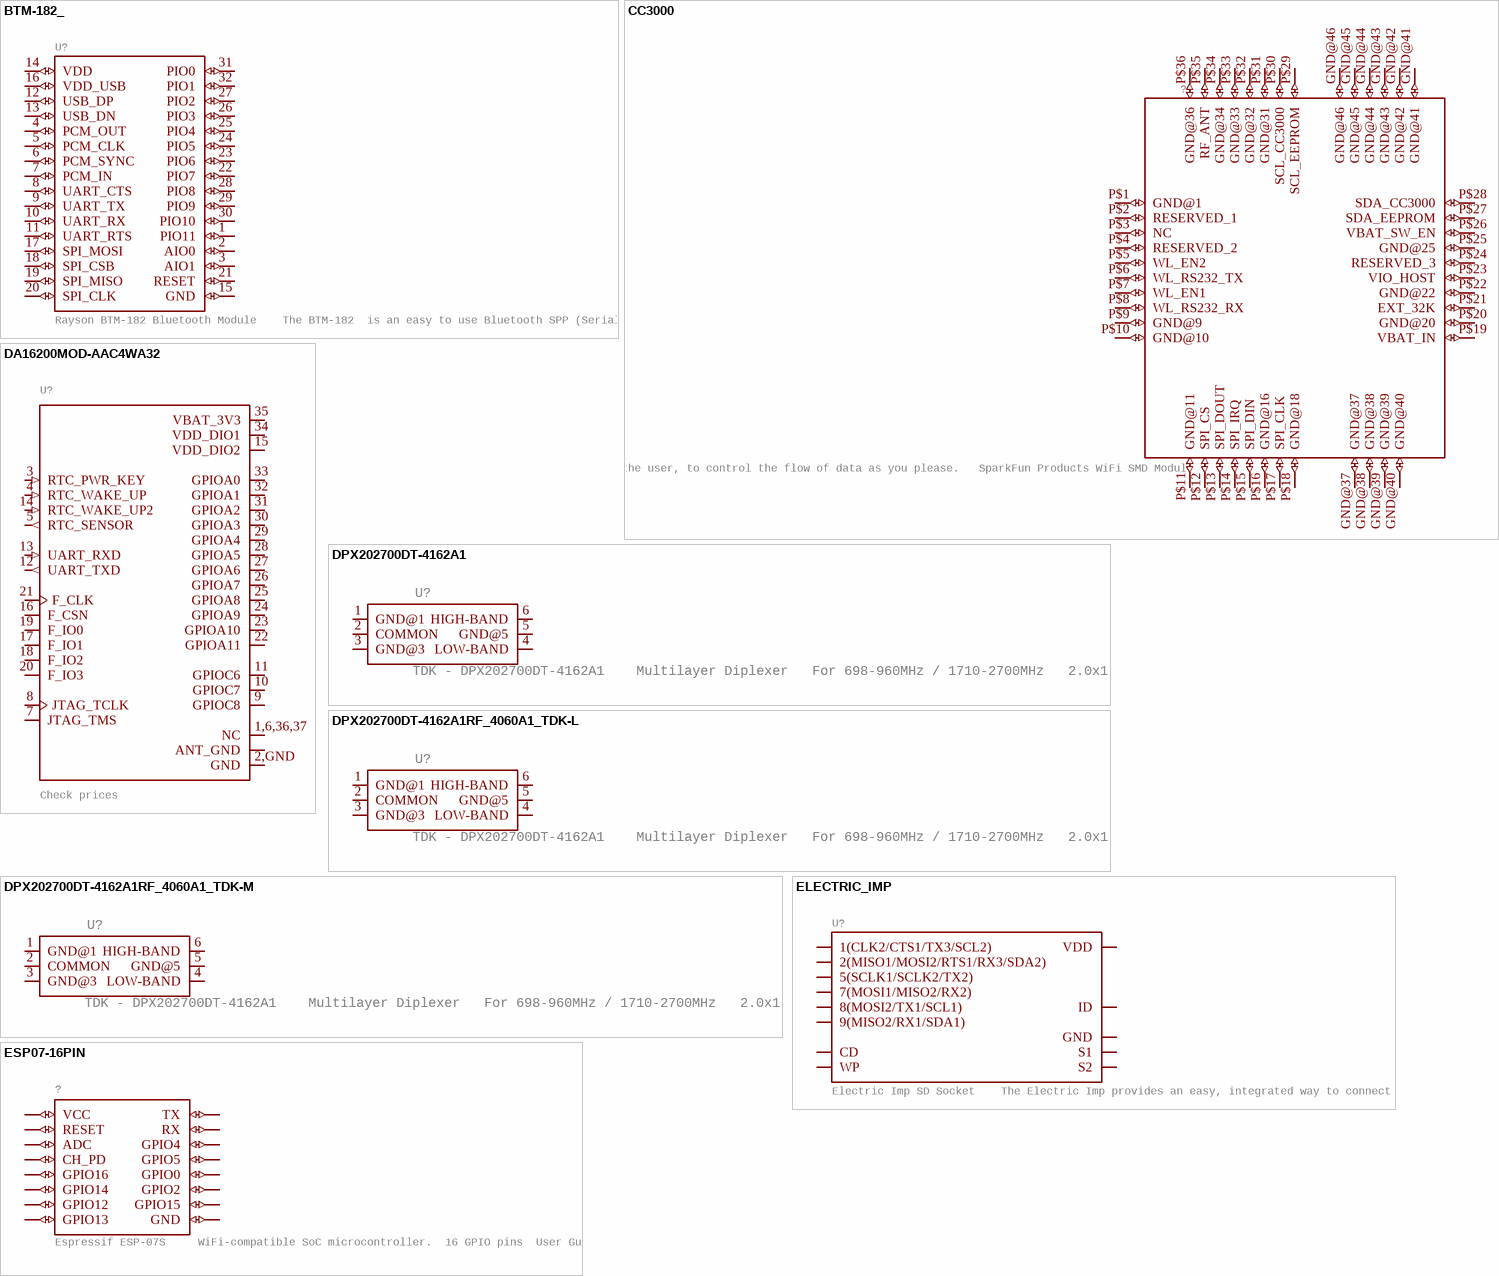
[diagram p4: symbols BTM-182_ to ESP07-16PIN]

## BTM-182_
designator U?, comment Rayson BTM-182 Bluetooth Module    The BTM-182  is an easy to use Bluetooth SPP (Serial Port Protocol) module, designed for transparent wireless serial connection setup. This is a fully qualified Bluetooth V2.0+EDR (Enhanced Data Rate) 3Mbps modulation with complete 2.4GHz radio transceiver. It uses CSR Bluecore 04 external single chip Bluetooth system with CMOS technology and with AFH (Adaptive Frequency Hopping).   SparkFun Products:  Bluetooth DIP Module - Rayson BTM-182 (WRL-9977)
GateName_1: G$1; SymbolName_1: BTM182; DeviceName: _; PROD_ID: IC-09842; SF_ID: WRL-09913; LibraryName: SparkFun-RF; DeviceSetName: BTM-182; Package: BTM182
footprint BTM182
pins: 1 PIO11 (io), 2 AIO0 (io), 3 AIO1 (io), 4 PCM_OUT (io), 5 PCM_CLK (io), 6 PCM_SYNC (io), 7 PCM_IN (io), 8 UART_CTS (io), 9 UART_TX (io), 10 UART_RX (io), 11 UART_RTS (io), 12 USB_DP (io), 13 USB_DN (io), 14 VDD (io), 15 GND (io), 16 VDD_USB (io), 17 SPI_MOSI (io), 18 SPI_CSB (io), 19 SPI_MISO (io), 20 SPI_CLK (io), 21 RESET (io), 22 PIO7 (io), 23 PIO6 (io), 24 PIO5 (io), 25 PIO4 (io), 26 PIO3 (io), 27 PIO2 (io), 28 PIO8 (io), 29 PIO9 (io), 30 PIO10 (io), 31 PIO0 (io), 32 PIO1 (io)

## CC3000
designator ?, comment Texas Instruments CC3000 WiFi Module    The CC3000 from TI (Texas Instruments) is a self-contained wireless network processor that makes incorporating internet connectivity into your project simple. Instead of the more standard UART communication method, the CC3000 module utilizes an SPI interface allowing you, the user, to control the flow of data as you please.   SparkFun Products WiFi SMD Module - CC3000 (WRL-12820)  SparkFun WiFi Breakout - CC3000 (WRL-12072)  SparkFun WiFi Shield - CC3000 (WRL-12071)
GateName_1: G$1; PROD_ID: IC-12643; SF_ID: WRL-13444; SymbolName_1: CC3000; LibraryName: SparkFun-RF; DeviceSetName: CC3000; Package: QFN-46-13.5X16.3MM
footprint QFN-46-13.5X16.3MM
pins: GND@37 (io), GND@38 (io), GND@39 (io), GND@40 (io), GND@41 (io), GND@42 (io), GND@43 (io), GND@44 (io), GND@45 (io), GND@46 (io), P$1 GND@1 (io), P$2 RESERVED_1 (io), P$3 NC (io), P$4 RESERVED_2 (io), P$5 WL_EN2 (io), P$6 WL_RS232_TX (io), P$7 WL_EN1 (io), P$8 WL_RS232_RX (io), P$9 GND@9 (io), P$10 GND@10 (io), P$11 GND@11 (io), P$12 SPI_CS (io), P$13 SPI_DOUT (io), P$14 SPI_IRQ (io), P$15 SPI_DIN (io), P$16 GND@16 (io), P$17 SPI_CLK (io), P$18 GND@18 (io), P$19 VBAT_IN (io), P$20 GND@20 (io), P$21 EXT_32K (io), P$22 GND@22 (io), P$23 VIO_HOST (io), P$24 RESERVED_3 (io), P$25 GND@25 (io), P$26 VBAT_SW_EN (io), P$27 SDA_EEPROM (io), P$28 SDA_CC3000 (io), P$29 SCL_EEPROM (io), P$30 SCL_CC3000 (io), P$31 GND@31 (io), P$32 GND@32 (io), P$33 GND@33 (io), P$34 GND@34 (io), P$35 RF_ANT (io), P$36 GND@36 (io)

## DA16200MOD-AAC4WA32
designator U?, comment Check prices
GateName_1: G$1; SymbolName_1: DA16200MOD-AAC4WA32; PROD_ID: IC-16179; LibraryName: SparkFun-RF; DeviceSetName: DA16200MOD-AAC4WA32; Package: XCVR_DA16200MOD-AAC4WA32
footprint XCVR_DA16200MOD-AAC4WA32
pins: 1,6,36,37 NC, 2,GND GND (power), 3 RTC_PWR_KEY (in), 4 RTC_WAKE_UP (in), 5 RTC_SENSOR (out), 7 JTAG_TMS (io), 8 JTAG_TCLK (io), 9 GPIOC8 (io), 10 GPIOC7 (io), 11 GPIOC6 (io), 12 UART_TXD (out), 13 UART_RXD (in), 14 RTC_WAKE_UP2 (in), 15 VDD_DIO2 (power), 16 F_CSN (io), 17 F_IO1 (io), 18 F_IO2 (io), 19 F_IO0 (io), 20 F_IO3 (io), 21 F_CLK (io), 22 GPIOA11 (io), 23 GPIOA10 (io), 24 GPIOA9 (io), 25 GPIOA8 (io), 26 GPIOA7 (io), 27 GPIOA6 (io), 28 GPIOA5 (io), 29 GPIOA4 (io), 30 GPIOA3 (io), 31 GPIOA2 (io), 32 GPIOA1 (io), 33 GPIOA0 (io), 34 VDD_DIO1 (power), 35 VBAT_3V3 (power), ANT_GND (power)

## DPX202700DT-4162A1
designator U?, comment TDK - DPX202700DT-4162A1    Multilayer Diplexer   For 698-960MHz / 1710-2700MHz   2.0x1.25mm [EIA 0805] Datasheet  SparkFun Products  LoRa Thing Plus - expLoRaBLE (WRL-17506) *Note, this uses the "standard" footprint (not the "-L" or "-M")
GateName_1: A; SymbolName_1: RF_4060A1; BUILT_BY: EMA_Matt; PROD_ID: IC-15465; SOURCELIBRARY: TDK_2019-10-09; LibraryName: SparkFun-RF; DeviceSetName: DPX202700DT-4162A1; Package: RF_4060A1_TDK; COPYRIGHT: Copyright (C) 2018 Accelerated Designs. All rights reserved; MANUFACTURER_PART_NUMBER: DPX202700DT-4162A1; VENDOR: TDK
footprint RF_4060A1_TDK
pins: 1 GND@1, 2 COMMON, 3 GND@3, 4 LOW-BAND, 5 GND@5, 6 HIGH-BAND

## DPX202700DT-4162A1RF_4060A1_TDK-L
designator U?, comment TDK - DPX202700DT-4162A1    Multilayer Diplexer   For 698-960MHz / 1710-2700MHz   2.0x1.25mm [EIA 0805] Datasheet  SparkFun Products  LoRa Thing Plus - expLoRaBLE (WRL-17506) *Note, this uses the "standard" footprint (not the "-L" or "-M")
GateName_1: A; SymbolName_1: RF_4060A1; DeviceName: RF_4060A1_TDK-L; BUILT_BY: EMA_Matt; SOURCELIBRARY: TDK_2019-10-09; LibraryName: SparkFun-RF; DeviceSetName: DPX202700DT-4162A1; Package: RF_4060A1_TDK-L; COPYRIGHT: Copyright (C) 2018 Accelerated Designs. All rights reserved; MANUFACTURER_PART_NUMBER: DPX202700DT-4162A1; VENDOR: TDK
footprint RF_4060A1_TDK-L
pins: 1 GND@1, 2 COMMON, 3 GND@3, 4 LOW-BAND, 5 GND@5, 6 HIGH-BAND

## DPX202700DT-4162A1RF_4060A1_TDK-M
designator U?, comment TDK - DPX202700DT-4162A1    Multilayer Diplexer   For 698-960MHz / 1710-2700MHz   2.0x1.25mm [EIA 0805] Datasheet  SparkFun Products  LoRa Thing Plus - expLoRaBLE (WRL-17506) *Note, this uses the "standard" footprint (not the "-L" or "-M")
GateName_1: A; SymbolName_1: RF_4060A1; DeviceName: RF_4060A1_TDK-M; BUILT_BY: EMA_Matt; SOURCELIBRARY: TDK_2019-10-09; LibraryName: SparkFun-RF; DeviceSetName: DPX202700DT-4162A1; Package: RF_4060A1_TDK-M; COPYRIGHT: Copyright (C) 2018 Accelerated Designs. All rights reserved; MANUFACTURER_PART_NUMBER: DPX202700DT-4162A1; VENDOR: TDK
footprint RF_4060A1_TDK-M
pins: 1 GND@1, 2 COMMON, 3 GND@3, 4 LOW-BAND, 5 GND@5, 6 HIGH-BAND

## ELECTRIC_IMP
designator U?, comment Electric Imp SD Socket    The Electric Imp provides an easy, integrated way to connect almost any hardware device both to other devices and to internet services. Itâ€™s more than just a WiFi card, or even a WiFi module with processing built in - itâ€™s an integrated platform that deals with the drudgery of connectivity, allowing you to concentrate on the application instead of the mechanics.    This device matches the Electric Imp pinout to a 4UCONN SD MMC connector. The 4UCONN part number for the connector is 19646.   SparkFun Products:  Electric Imp Breakout (WRL-12886)  SparkFun Electric Imp Shield (WRL-12887)
GateName_1: G$1; SymbolName_1: ELECTRIC_IMP; PROD_ID: CONN-11976; LibraryName: SparkFun-RF; DeviceSetName: ELECTRIC_IMP; Package: SD-CARD
footprint SD-CARD
pins: 1 1(CLK2/CTS1/TX3/SCL2) (io), 2 2(MISO1/MOSI2/RTS1/RX3/SDA2) (io), 3 GND (io), 4 VDD (io), 5 5(SCLK1/SCLK2/TX2) (io), 6 ID (io), 7 7(MOSI1/MISO2/RX2) (io), 8 8(MOSI2/TX1/SCL1) (io), 9 9(MISO2/RX1/SDA1) (io), CD (io), SH@1 S1 (io), SH@2 S2 (io), WP (io)

## ESP07-16PIN
designator ?, comment Espressif ESP-07S     WiFi-compatible SoC microcontroller.  16 GPIO pins  User Guide
GateName_1: A; SymbolName_1: ESP07-16PIN; PROD_ID: IC-13915; LibraryName: SparkFun-RF; DeviceSetName: ESP07-16PIN; Package: ESP07
footprint ESP07
pins: ADC (io), CH_PD (io), GND (io), GPIO0 (io), GPIO2 (io), GPIO4 (io), GPIO5 (io), GPIO12 (io), GPIO13 (io), GPIO14 (io), GPIO15 (io), GPIO16 (io), REST RESET (io), RX (io), TX (io), VCC (io)

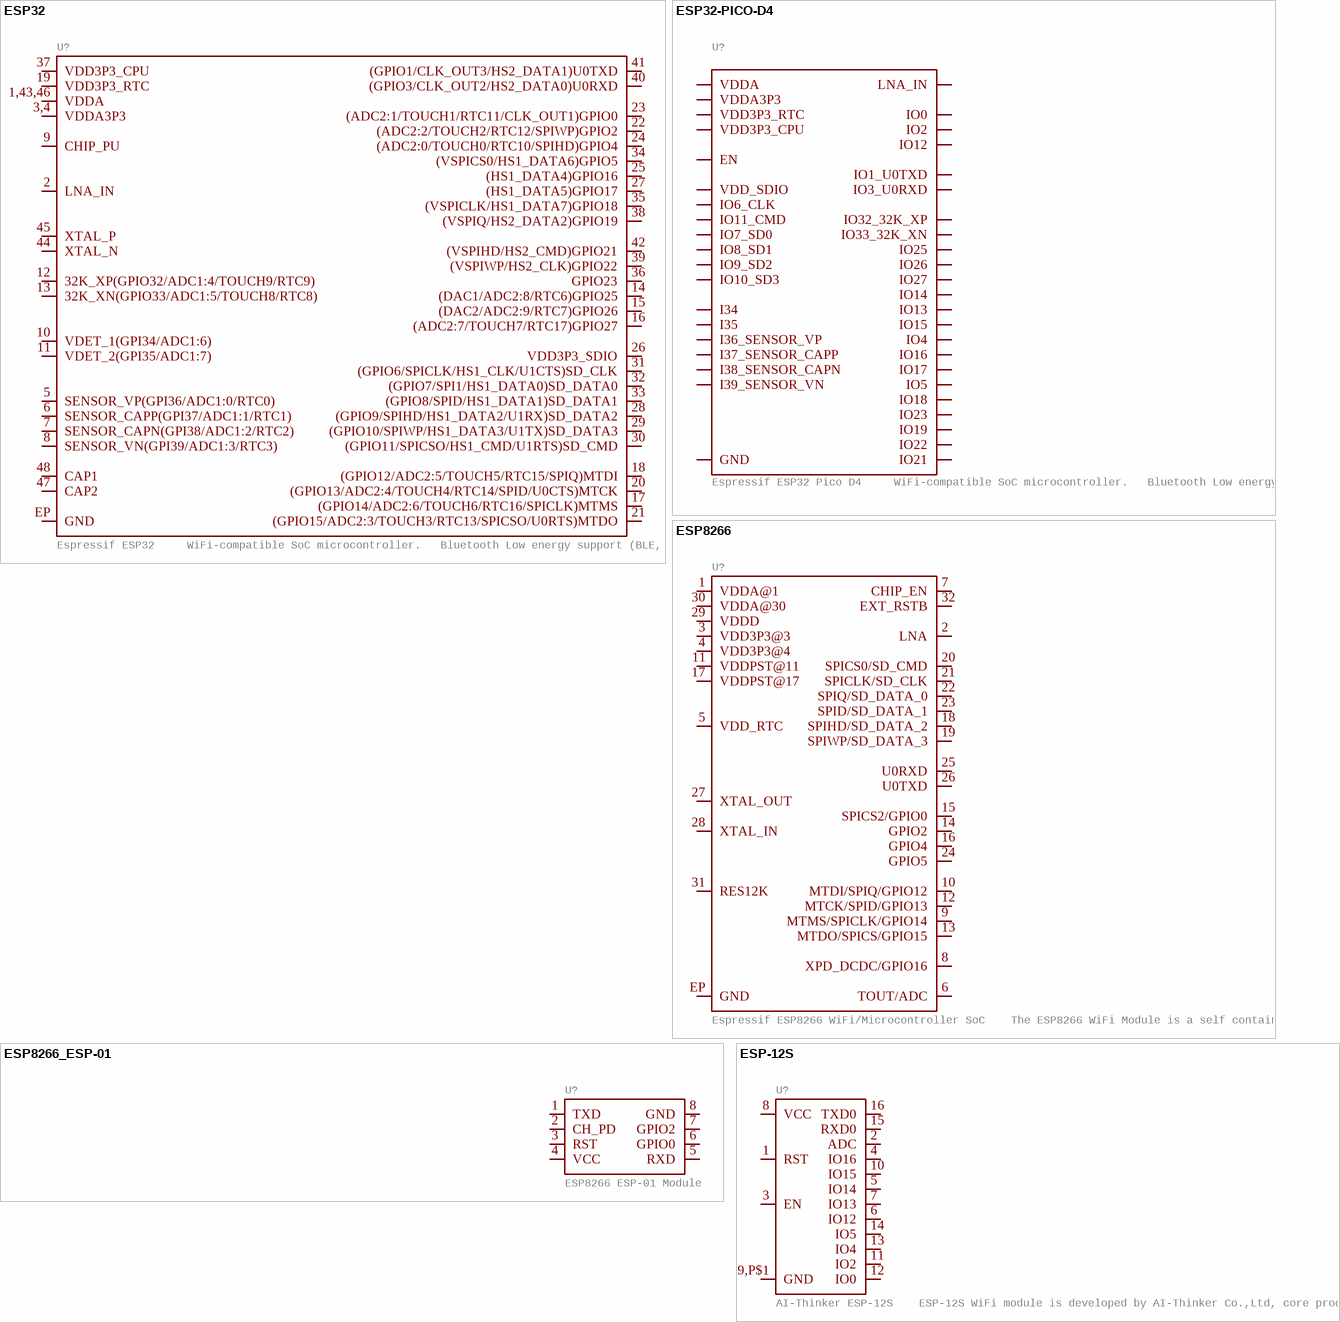
[diagram p5: symbols ESP32 to ESP-12S]

## ESP32
designator U?, comment Espressif ESP32     WiFi-compatible SoC microcontroller.   Bluetooth Low energy support (BLE, BT4.0, Bluetooth Smart)  28 GPIO pins  Dual-core Tensilica LX6 microprocessor  Hardware accelerated encryption (AES, SHA2, ECC, RSA-4096)  4MB Flash memory  520kB internal SRAM  Datasheet    SparkFun Products: SparkFun ESP32 Thing
GateName_1: G$1; PROD_ID: IC-13338; SymbolName_1: ESP32; LibraryName: SparkFun-RF; DeviceSetName: ESP32; Package: QFN48-0.4MM
footprint QFN48-0.4MM
pins: 1,43,46 VDDA (io), 2 LNA_IN (io), 3,4 VDDA3P3 (io), 5 SENSOR_VP(GPI36/ADC1:0/RTC0) (io), 6 SENSOR_CAPP(GPI37/ADC1:1/RTC1) (io), 7 SENSOR_CAPN(GPI38/ADC1:2/RTC2) (io), 8 SENSOR_VN(GPI39/ADC1:3/RTC3) (io), 9 CHIP_PU (io), 10 VDET_1(GPI34/ADC1:6) (io), 11 VDET_2(GPI35/ADC1:7) (io), 12 32K_XP(GPIO32/ADC1:4/TOUCH9/RTC9) (io), 13 32K_XN(GPIO33/ADC1:5/TOUCH8/RTC8) (io), 14 (DAC1/ADC2:8/RTC6)GPIO25 (io), 15 (DAC2/ADC2:9/RTC7)GPIO26 (io), 16 (ADC2:7/TOUCH7/RTC17)GPIO27 (io), 17 (GPIO14/ADC2:6/TOUCH6/RTC16/SPICLK)MTMS (io), 18 (GPIO12/ADC2:5/TOUCH5/RTC15/SPIQ)MTDI (io), 19 VDD3P3_RTC (io), 20 (GPIO13/ADC2:4/TOUCH4/RTC14/SPID/U0CTS)MTCK (io), 21 (GPIO15/ADC2:3/TOUCH3/RTC13/SPICSO/U0RTS)MTDO (io), 22 (ADC2:2/TOUCH2/RTC12/SPIWP)GPIO2 (io), 23 (ADC2:1/TOUCH1/RTC11/CLK_OUT1)GPIO0 (io), 24 (ADC2:0/TOUCH0/RTC10/SPIHD)GPIO4 (io), 25 (HS1_DATA4)GPIO16 (io), 26 VDD3P3_SDIO (io), 27 (HS1_DATA5)GPIO17 (io), 28 (GPIO9/SPIHD/HS1_DATA2/U1RX)SD_DATA2 (io), 29 (GPIO10/SPIWP/HS1_DATA3/U1TX)SD_DATA3 (io), 30 (GPIO11/SPICSO/HS1_CMD/U1RTS)SD_CMD (io), 31 (GPIO6/SPICLK/HS1_CLK/U1CTS)SD_CLK (io), 32 (GPIO7/SPI1/HS1_DATA0)SD_DATA0 (io), 33 (GPIO8/SPID/HS1_DATA1)SD_DATA1 (io), 34 (VSPICS0/HS1_DATA6)GPIO5 (io), 35 (VSPICLK/HS1_DATA7)GPIO18 (io), 36 GPIO23 (io), 37 VDD3P3_CPU (io), 38 (VSPIQ/HS2_DATA2)GPIO19 (io), 39 (VSPIWP/HS2_CLK)GPIO22 (io), 40 (GPIO3/CLK_OUT2/HS2_DATA0)U0RXD (io), 41 (GPIO1/CLK_OUT3/HS2_DATA1)U0TXD (io), 42 (VSPIHD/HS2_CMD)GPIO21 (io), 44 XTAL_N (io), 45 XTAL_P (io), 47 CAP2 (io), 48 CAP1 (io), EP GND (io)

## ESP32-PICO-D4
designator U?, comment Espressif ESP32 Pico D4     WiFi-compatible SoC microcontroller.   Bluetooth Low energy support (BLE, BT4.0, Bluetooth Smart)  28 GPIO pins  Dual-core Tensilica LX6 microprocessor  Integrated 4MB SPI flash memory  Hardware accelerated encryption (AES, SHA2, ECC, RSA-4096)  520kB internal SRAM
GateName_1: G$1; SymbolName_1: ESP32-PICO-D4; LibraryName: SparkFun-RF; DeviceSetName: ESP32-PICO-D4; Package: ESP32-PICO-D4
footprint ESP32-PICO-D4
pins: 1,43,46 VDDA (io), 2 LNA_IN (io), 3,4 VDDA3P3 (io), 5 I36_SENSOR_VP (io), 6 I37_SENSOR_CAPP (io), 7 I38_SENSOR_CAPN (io), 8 I39_SENSOR_VN (io), 9 EN (io), 10 I34 (io), 11 I35 (io), 12 IO32_32K_XP (io), 13 IO33_32K_XN (io), 14 IO25 (io), 15 IO26 (io), 16 IO27 (io), 17 IO14 (io), 18 IO12 (io), 19 VDD3P3_RTC (io), 20 IO13 (io), 21 IO15 (io), 22 IO2 (io), 23 IO0 (io), 24 IO4 (io), 25 IO16 (io), 26 VDD_SDIO (io), 27 IO17 (io), 28 IO9_SD2 (io), 29 IO10_SD3 (io), 30 IO11_CMD (io), 31 IO6_CLK (io), 32 IO7_SD0 (io), 33 IO8_SD1 (io), 34 IO5 (io), 35 IO18 (io), 36 IO23 (io), 37 VDD3P3_CPU (io), 38 IO19 (io), 39 IO22 (io), 40 IO3_U0RXD (io), 41 IO1_U0TXD (io), 42 IO21 (io), PAD GND (io)

## ESP8266
designator U?, comment Espressif ESP8266 WiFi/Microcontroller SoC    The ESP8266 WiFi Module is a self contained SOC with integrated TCP/IP protocol stack that can give any microcontroller access to your WiFi network. The ESP8266 is capable of either hosting an application or offloading all Wi-Fi networking functions from another application processor.   SparkFun Products WiFi Module ESP8266 (WRL-13678)  SparkFun ESP8266 Thing (WRL-13231)  SparkFun WiFi Shield - ESP8266 (WRL-13287)  SparkFun ESP8266 Thing - Dev Board (WRL-13711)  SparkFun Blynk Board - ESP8266 (WRL-13794)
GateName_1: G$1; PROD_ID: IC-12452; SymbolName_1: ESP8266; LibraryName: SparkFun-RF; DeviceSetName: ESP8266; Package: QFN32-5X5MM
footprint QFN32-5X5MM
pins: 1 VDDA@1 (io), 2 LNA (io), 3 VDD3P3@3 (io), 4 VDD3P3@4 (io), 5 VDD_RTC (io), 6 TOUT/ADC (io), 7 CHIP_EN (io), 8 XPD_DCDC/GPIO16 (io), 9 MTMS/SPICLK/GPIO14 (io), 10 MTDI/SPIQ/GPIO12 (io), 11 VDDPST@11 (io), 12 MTCK/SPID/GPIO13 (io), 13 MTDO/SPICS/GPIO15 (io), 14 GPIO2 (io), 15 SPICS2/GPIO0 (io), 16 GPIO4 (io), 17 VDDPST@17 (io), 18 SPIHD/SD_DATA_2 (io), 19 SPIWP/SD_DATA_3 (io), 20 SPICS0/SD_CMD (io), 21 SPICLK/SD_CLK (io), 22 SPIQ/SD_DATA_0 (io), 23 SPID/SD_DATA_1 (io), 24 GPIO5 (io), 25 U0RXD (io), 26 U0TXD (io), 27 XTAL_OUT (io), 28 XTAL_IN (io), 29 VDDD (io), 30 VDDA@30 (io), 31 RES12K (io), 32 EXT_RSTB (io), EP GND (io)

## ESP8266_ESP-01
designator U?, comment ESP8266 ESP-01 Module    The ESP8266 WiFi Module is a self contained SOC with integrated TCP/IP protocol stack that can give any microcontroller access to your WiFi network. The ESP8266 is capable of either hosting an application or offloading all Wi-Fi networking functions from another application processor. Each ESP8266 module comes pre-programmed with an AT command set firmware, meaning, you can simply hook this up to your Arduino device and get about as much WiFi-ability as a WiFi Shield offers (and thatâ€™s just out of the box)! The ESP8266 module is an extremely cost effective board with a huge, and ever growing, community.   This module has a powerful enough on-board processing and storage capability that allows it to be integrated with the sensors and other application specific devices through its GPIOs with minimal development up-front and minimal loading during runtime. Its high degree of on-chip integration allows for minimal external circuitry, including the front-end module, is designed to occupy minimal PCB area. The ESP8266 supports APSD for VoIP applications and Bluetooth co-existance interfaces, it contains a self-calibrated RF allowing it to work under all operating conditions, and requires no external RF parts.   SparkFun Product Page
GateName_1: G$1; SymbolName_1: ESP8266_ESP-01; SF_ID: WRL-13678; LibraryName: SparkFun-RF; DeviceSetName: ESP8266_ESP-01; Package: ESP8266_ESP-01
footprint ESP8266_ESP-01
pins: 1 TXD (io), 2 CH_PD (io), 3 RST (io), 4 VCC (io), 5 RXD (io), 6 GPIO0 (io), 7 GPIO2 (io), 8 GND (io)

## ESP-12S
designator U?, comment AI-Thinker ESP-12S    ESP-12S WiFi module is developed by AI-Thinker Co.,Ltd, core processor ESP8266 in smaller sizes of the module encapsulates Tensilica L106 integrates industry-leading ultra low power 32-bit MCU micro, with the 16-bit short mode, clock speed support 80 MHz, 160 MHz, supports the RTOS, integrated Wi-Fi MAC/BB/RF/PA/LNA, on-board antennas.
GateName_1: G$1; PROD_ID: IC-14115; SymbolName_1: ESP-12S; LibraryName: SparkFun-RF; DeviceSetName: ESP-12S; Package: ESP-12S
footprint ESP-12S
pins: 1 RST (io), 2 ADC (io), 3 EN (io), 4 IO16 (io), 5 IO14 (io), 6 IO12 (io), 7 IO13 (io), 8 VCC (io), 9,P$1 GND (io), 10 IO15 (io), 11 IO2 (io), 12 IO0 (io), 13 IO4 (io), 14 IO5 (io), 15 RXD0 (io), 16 TXD0 (io)

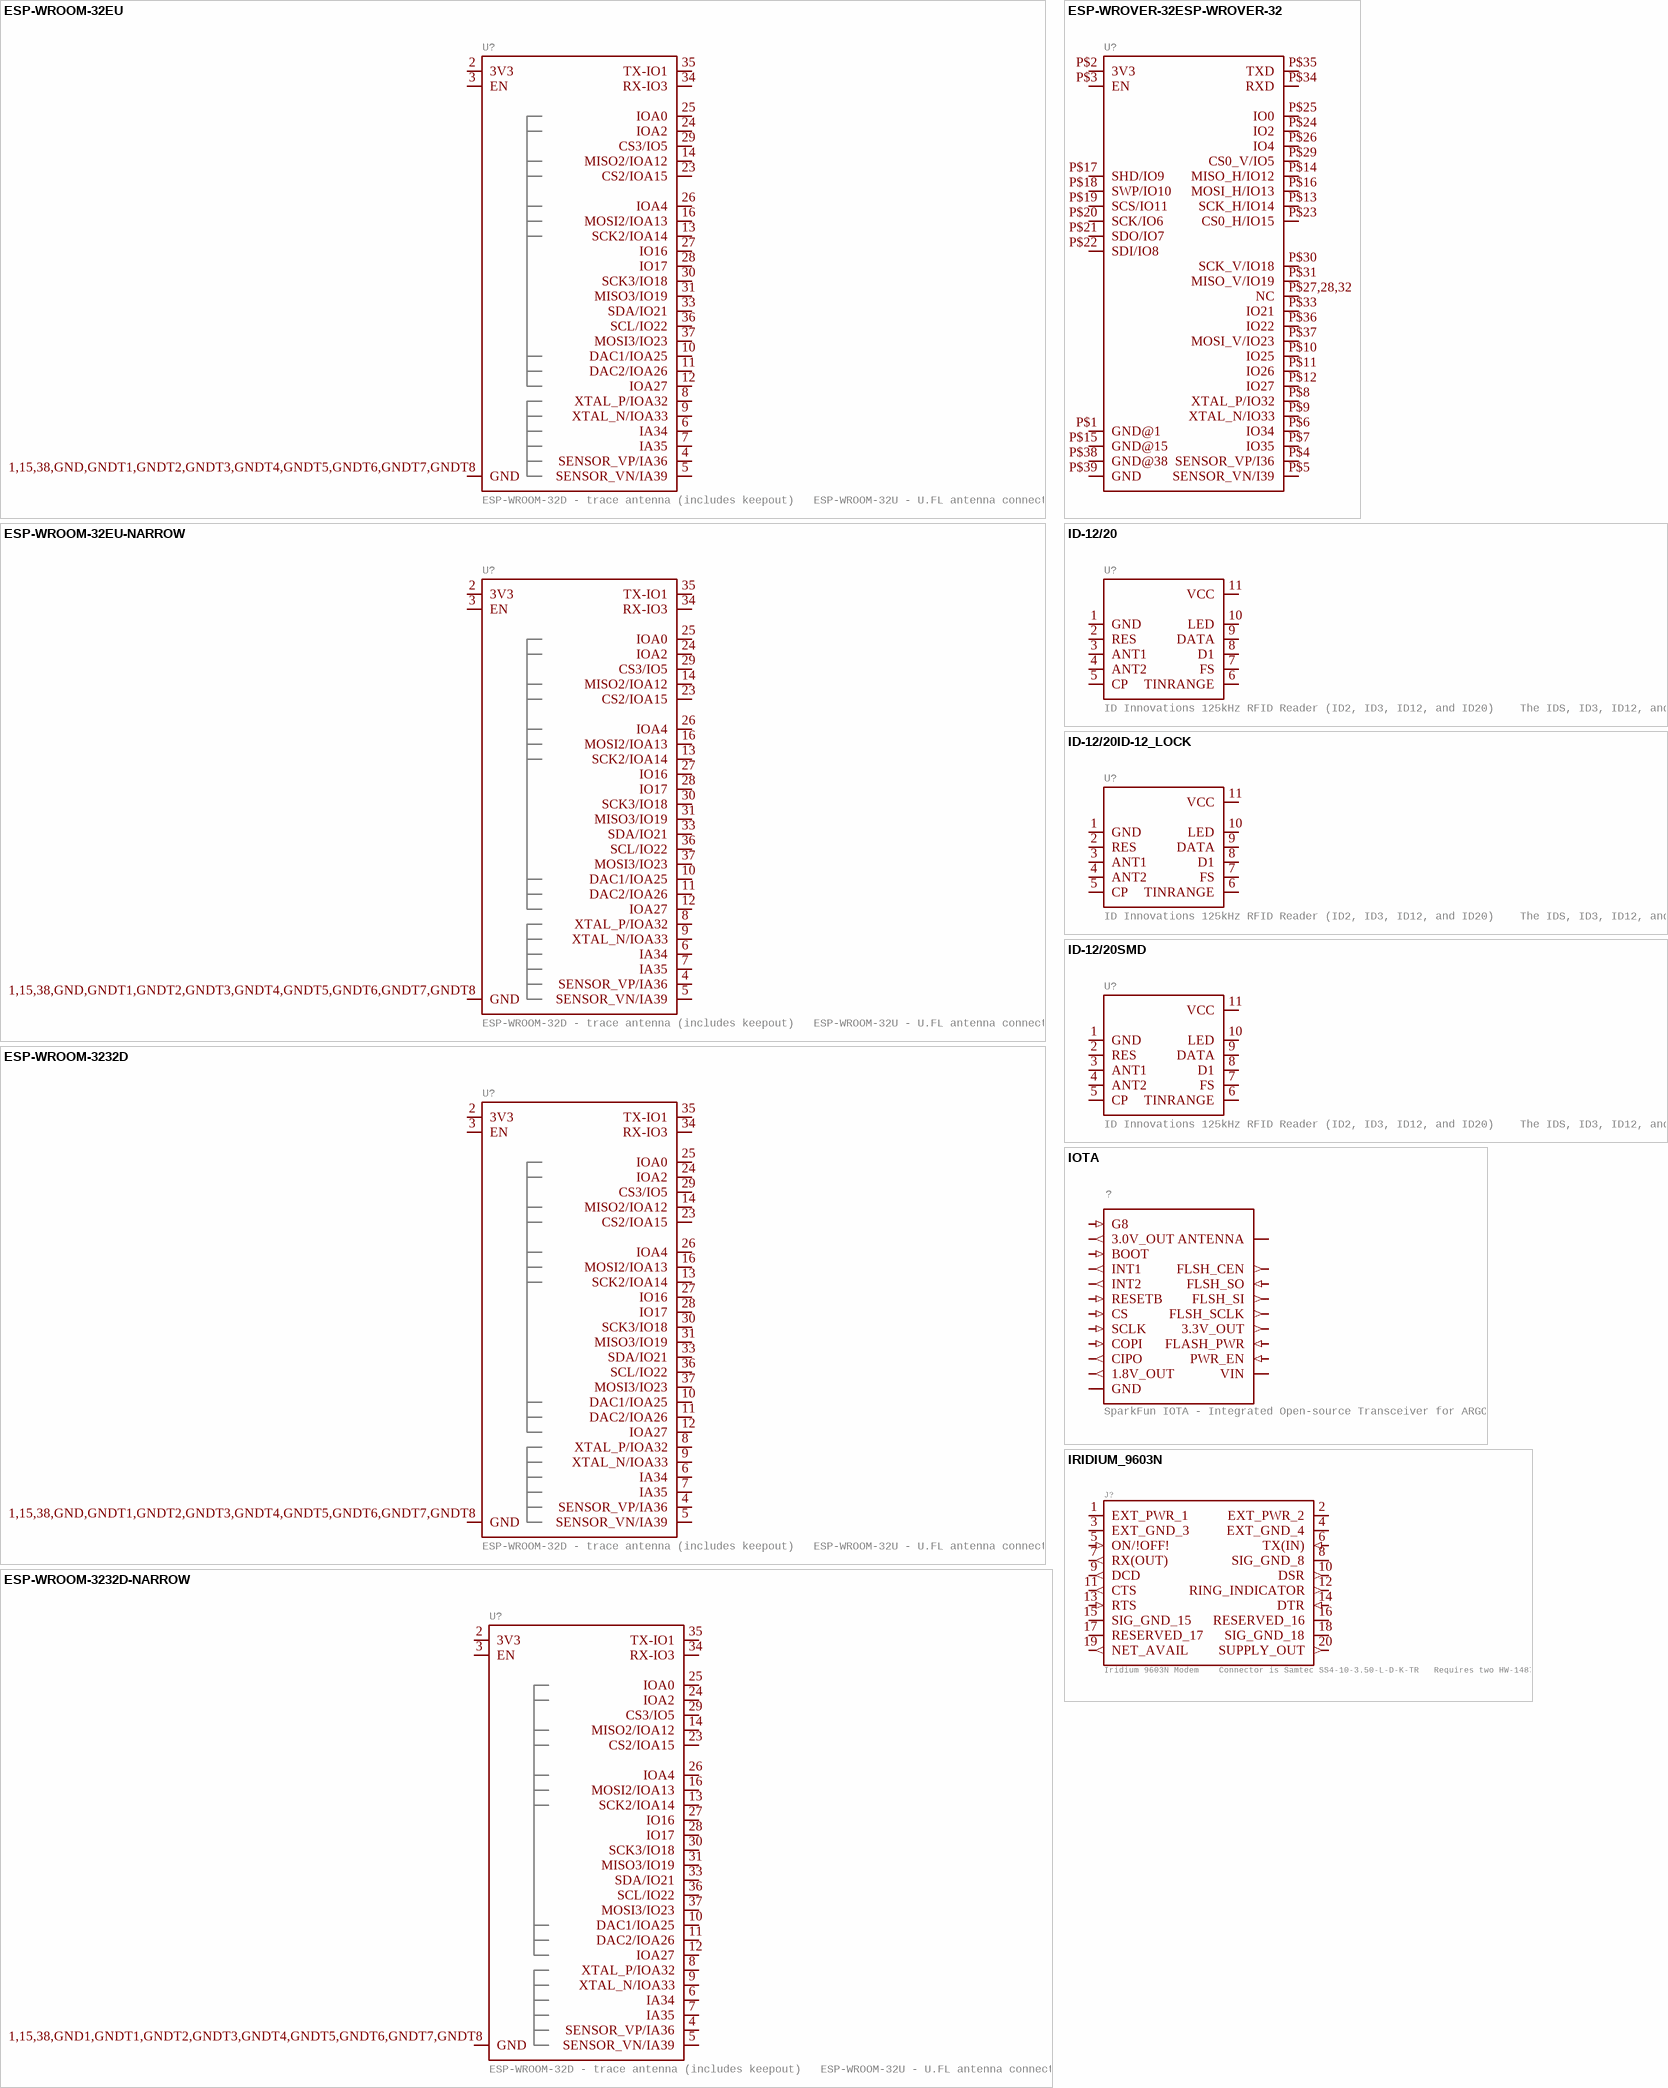
[diagram p6: symbols ESP-WROOM-32EU to IRIDIUM_9603N]